# Altium schematic symbol library Schlib.SchLib: 111 symbols (part 1 of 2)
Pins are listed as number, name and electrical type; pins without a type are passive.

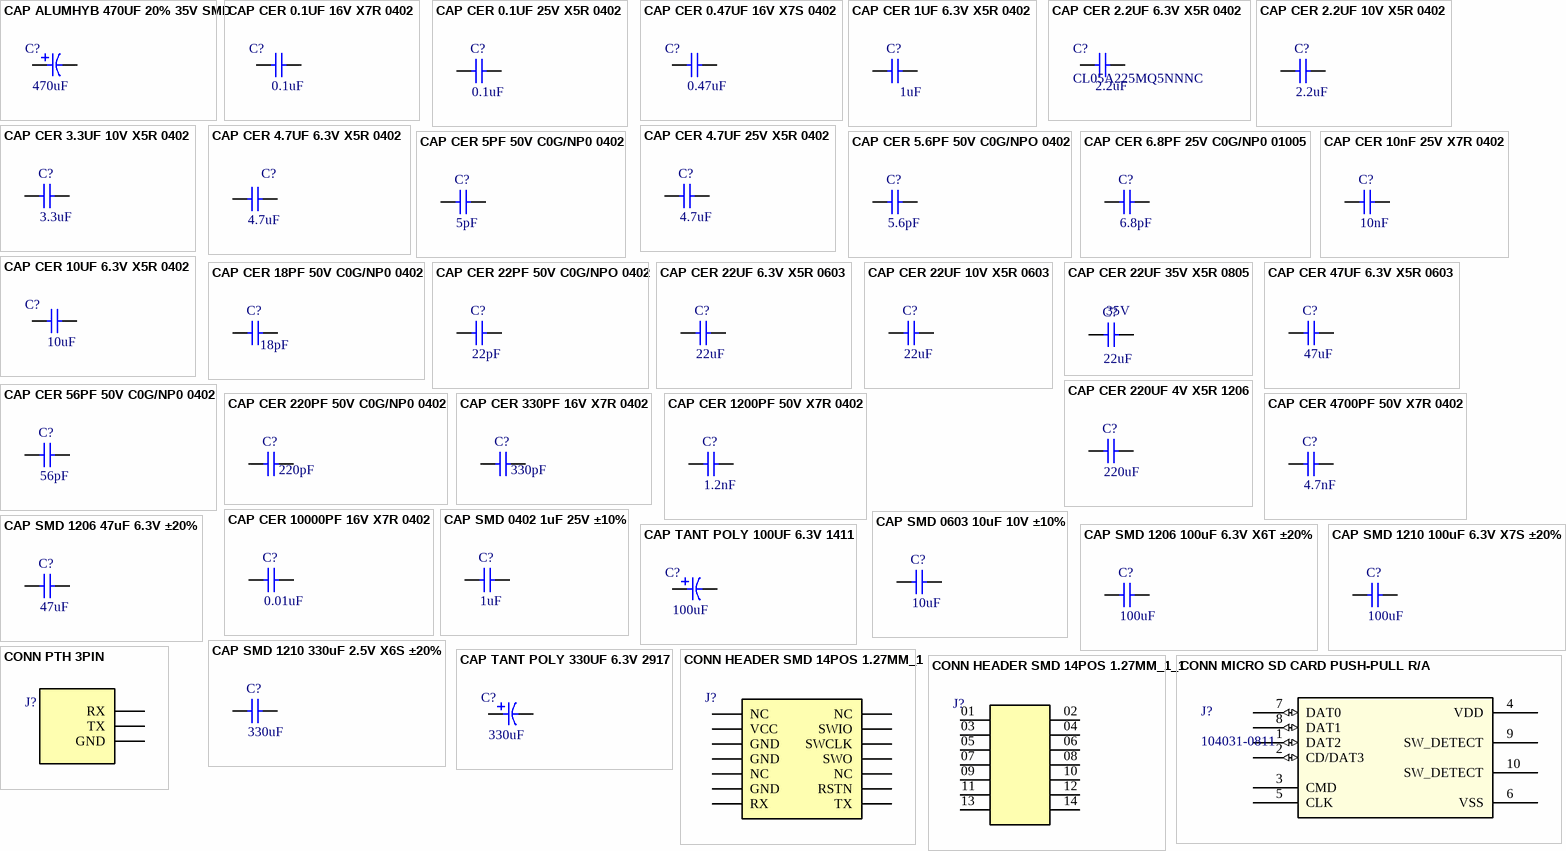
[diagram p0: symbols CAP ALUMHYB 470UF 20% 35V SMD to CONN PTH 3PIN]

## CAP ALUMHYB 470UF 20% 35V SMD
designator C?, comment value 470uF  (hidden comment: EEH-ZS1V471UP)
CAP ALUMHYB 470UF 20% 35V SMD PN: EEH-ZS1V471UP; Mfr_Name: PANASONIC; Tolerance: 20%; Voltage: 35V; PN: EEH-ZS1V471UP
footprint CAP_EEHZS1V471UP
pins: 1, 2

## CAP CER 0.1UF 16V X7R 0402
designator C?, comment CAPACITANCE: 0.1uF  (hidden comment: GRM155R71C104KA88J)
0.1 µF ±10% 16V Ceramic Capacitor X7R 0402 (1005 Metric) / PN: GRM155R71C104KA88J; Mfr_Name: Murata; PN: GRM155R71C104KA88J
footprint 0402-C-R
pins: 1, 2

## CAP CER 0.1UF 25V X5R 0402
designator C?, comment value 0.1uF  (hidden comment: GRM155R61E104KA87D)
0.1 µF ±10% 25V Ceramic Capacitor X5R 0402 (1005 Metric); SIZE: 0402; PN: GRM155R61E104KA87D; VOLTAGE: 25V; TOLERANCE: 10%
footprint 0402-C-R
pins: 1, 2

## CAP CER 0.47UF 16V X7S 0402
designator C?, comment CAPACITANCE: 0.47uF  (hidden comment: CGA2B1X7S1C474K050BC)
CAP CER 0.47UF 16V X7S 0402 PN: CGA2B1X7S1C474K050BC; Mfr_Name: Murata; PN: CGA2B1X7S1C474K050BC
footprint 0402-C-R
pins: 1, 2

## CAP CER 1UF 6.3V X5R 0402
designator C?, comment value 1uF  (hidden comment: JMK105BJ105KV-F)
1 µF ±10% 6.3V Ceramic Capacitor X5R 0402 (1005 Metric); SIZE: 0402; VOLTAGE: 6.3V; TOLERANCE: 10%; PN: JMK105BJ105KV-F
footprint 0402-C-R
pins: 1, 2

## CAP CER 2.2UF 6.3V X5R 0402
designator C?, comment CL05A225MQ5NNNC  CAPACITANCE: 2.2uF
2.2 µF ±20% 6.3V Ceramic Capacitor X5R 0402 (1005 Metric) / PN: CL05A225MQ5NNNC; Mfr_Name: Samsung; PN: CL05A225MQ5NNNC
footprint 0402-C-R
pins: 1, 2

## CAP CER 2.2UF 10V X5R 0402
designator C?, comment value 2.2uF  (hidden comment: 885012105013)
2.2 µF ±20% 10V Ceramic Capacitor X5R 0402 (1005 Metric); SIZE: 0402; VOLTAGE: 10V; TOLERANCE: 20%; PN: 885012105013
footprint 0402-C-R
pins: 1, 2

## CAP CER 3.3UF 10V X5R 0402
designator C?, comment value 3.3uF  (hidden comment: C1005X5R1A335K050BC)
3.3 µF ±10% 10V Ceramic Capacitor X5R 0402 (1005 Metric); SIZE: 0402; PN: C1005X5R1A335K050BC; VOLTAGE: 10V; TOLERANCE: 10%
footprint 0402-C-R
pins: 1, 2

## CAP CER 4.7UF 6.3V X5R 0402
designator C?, comment CAPACITANCE: 4.7uF  (hidden comment: GRM155R60J475ME47D)
4.7 µF ±20% 6.3V Ceramic Capacitor X5R 0402 (1005 Metric) / PN: GRM155R60J475ME47D; Manufacturer_Name: Murata Electronics; Geometry.Height: 0.55mm; Manufacturer_Part_Number: GRM155R60J475ME47D; Mouser Part Number: 81-GRM155R60J475ME7D; Mouser Price/Stock: https://www.mouser.co.uk/ProductDetail/Murata-Electronics/GRM155R60J475ME47D?qs=OCU2Oztfa2a4ocPC5S3YIg%3D%3D; Arrow Part Number: GRM155R60J475ME47D; Arrow Price/Stock: https://www.arrow.com/en/products/grm155r60j475me47d/murata-manufacturing?utm_currency=USD&region=nac; Datasheet Link: https://search.murata.co.jp/Ceramy/image/img/A01X/G101/ENG/GRM155R60J475ME47-17A.pdf; PN: GRM155R60J475ME47D
footprint 0402-C-R
pins: 1, 2

## CAP CER 4.7UF 25V X5R 0402
designator C?, comment value 4.7uF  (hidden comment: GRM155D81C475ME15J)
CAP SMD 0402 MLCC GERAL 4.7uF 25V ±20% 0402 X5s PN: GRM155D81C475ME15J MURATA; SIZE: 0402; VOLTAGE: 25V; TOLERANCE: 20%; PN: GRM155D81C475ME15J
footprint 0402-C-R
pins: 1, 2

## CAP CER 5.6PF 50V C0G/NPO 0402
designator C?, comment value 5.6pF  (hidden comment: CC0402BRNPO9BN5R6)
5.6 pF ±0.1pF 50V Ceramic Capacitor C0G, NP0 0402 (1005 Metric); TOLERANCE: 1%; SIZE: 0402; VOLTAGE: 50V; PN: CC0402BRNPO9BN5R6
footprint 0402-C-R
pins: 1, 2

## CAP CER 5PF 50V C0G/NP0 0402
designator C?, comment value 5pF  (hidden comment: GRM1555C1H5R0BA01D)
5 pF ±0.1pF 50V Ceramic Capacitor C0G, NP0 0402 (1005 Metric); PN: C1005X5R1A335K050BC; TOLERANCE: 2%; SIZE: 0402; VOLTAGE: 50V
footprint 0402-C-R
pins: 1, 2

## CAP CER 6.8PF 25V C0G/NP0 01005
designator C?, comment value 6.8pF  (hidden comment: GRM0225C1E6R8CA03L)
6.8 pF ±0.25pF 25V Ceramic Capacitor C0G, NP0 01005 (0402 Metric); TOLERANCE: 5%; SIZE: 0402; VOLTAGE: 25V; PN: GRM0225C1E6R8CA03L
footprint 0402-C-R
pins: 1, 2

## CAP CER 10nF 25V X7R 0402
designator C?, comment value 10nF  (hidden comment: KGM05AR71E103KH)
10000 pF ±10% 25V Ceramic Capacitor X7R 0402 (1005 Metric); SIZE: 0402; VOLTAGE: 25V; TOLERANCE: 10%; PN: KGM05AR71E103KH
footprint 0402-C-R
pins: 1, 2

## CAP CER 10UF 6.3V X5R 0402
designator C?  CAPACITANCE: 10uF  (hidden comment: *)
10 µF ±20% 6.3V Ceramic Capacitor X5R 0402 (1005 Metric) / PN: GRM155R60J106ME05D; Mfr_Name: Murata; Type: Ceramic Capacitors; PN: GRM155R60J106ME05D
footprint 0402-C-R
pins: 1, 2

## CAP CER 18PF 50V C0G/NP0 0402
designator C?, comment value 18pF  (hidden comment: GRM1555C1H180JA01D)
18 pF ±5% 50V Capacitor de cerâmica C0G, NP0 0402 (métrico 1005)PN:GRM1555C1H180JA01D MURATA; SIZE: 0402; VOLTAGE: 50V; TOLERANCE: 5%; PN: GRM1555C1H180JA01D
footprint 0402-C-R
pins: 1, 2

## CAP CER 22PF 50V C0G/NPO 0402
designator C?, comment value 22pF  (hidden comment: GRM1555C1H220JA01D)
22 pF ±5% 50V Ceramic Capacitor C0G, NP0 0402 (1005 Metric); SIZE: 0402; PN: GRM1555C1H220JA01D; VOLTAGE: 50V; TOLERANCE: 5%
footprint 0402-C-R
pins: 1, 2

## CAP CER 22UF 6.3V X5R 0603
designator C?, comment value 22uF  (hidden comment: GRM188R60J226MEA0D)
22 µF ±20% 6.3V Ceramic Capacitor X5R 0603 (1608 Metric); SIZE: 0603; PN: GRM188R60J226MEA0D; VOLTAGE: 6.3V; TOLERANCE: 20%
footprint 0603-C-R
pins: 1, 2

## CAP CER 22UF 10V X5R 0603
designator C?, comment value 22uF  (hidden comment: GRM188R61A226ME15D)
22 µF ±20% 10V Ceramic Capacitor X5R 0603 (1608 Metric); SIZE: 0603; PN: GRM188R61A226ME15D; VOLTAGE: 10V; TOLERANCE: 20%
footprint 0603-C-R
pins: 1, 2

## CAP CER 22UF 35V X5R 0805
designator C?, comment value 22uF  VOLTAGE: 35V  (hidden comment: C2012X5R1V226M125AC)
22 µF ±20% 35V Ceramic Capacitor X5R 0805 (2012 Metric); SIZE: 0603; PN: C2012X5R1V226M125AC; TOLERANCE: 20%
footprint 0805-C-R
pins: 1, 2

## CAP CER 47UF 6.3V X5R 0603
designator C?, comment value 47uF  (hidden comment: ZRB18AR60J476ME01L)
47 µF ±20% 6.3V Ceramic Capacitor X5R 0603 (1608 Metric); SIZE: 0603; PN: ZRB18AR60J476ME01L; VOLTAGE: 6.3V; TOLERANCE: 20%
footprint 0603-C-R
pins: 1, 2

## CAP CER 56PF 50V C0G/NP0 0402
designator C?, comment value 56pF  (hidden comment: GCM1555C1H560JA16D)
56 pF ±5% 50V Ceramic Capacitor C0G, NP0 0402 (1005 Metric); SIZE: 0402; PN: GCM1555C1H560JA16D; VOLTAGE: 50V; TOLERANCE: 5%
footprint 0402-C-R
pins: 1, 2

## CAP CER 220PF 50V C0G/NP0 0402
designator C?, comment value 220pF  (hidden comment: GRM1555C1H221JA01D)
220 pF ±5% 50V Ceramic Capacitor C0G, NP0 0402 (1005 Metric); SIZE: 0402; VOLTAGE: 50V; TOLERANCE: 5%; PN: GRM1555C1H221JA01D
footprint 0402-C-R
pins: 1, 2

## CAP CER 220UF 4V X5R 1206
designator C?, comment value 220uF  (hidden comment: GRM31CC80G227ME11L)
220 µF ±20% 4V Ceramic Capacitor X5R 1206 (3216 Metric) PN: GRM31CC80G227ME11L; SIZE: 1206; PN: GRM31CC80G227ME11L; TOLERANCE: 20%; VOLTAGE: 4V
footprint 1206-C-R
pins: 1, 2

## CAP CER 330PF 16V X7R 0402
designator C?, comment value 330pF  (hidden comment: C0402C331K4RACTU)
330 pF ±10% 16V Ceramic Capacitor X7R 0402 (1005 Metric); SIZE: 0402; VOLTAGE: 16V; TOLERANCE: 10%; PN: C0402C331K4RACTU
footprint 0402-C-R
pins: 1, 2

## CAP CER 1200PF 50V X7R 0402
designator C?, comment value 1.2nF  (hidden comment: GRM155R71H122KA01D)
1200 pF ±10% 50V Ceramic Capacitor X7R 0402 (1005 Metric); SIZE: 0402; VOLTAGE: 50V; TOLERANCE: 10%; PN: GRM155R71H122KA01D
footprint 0402-C-R
pins: 1, 2

## CAP CER 4700PF 50V X7R 0402
designator C?, comment value 4.7nF  (hidden comment: GRM155R71H472KA01D)
4700 pF ±10% 50V Capacitor de cerâmica X7R 0402 PN: GRM155R71H472KA01D; SIZE: 0402; PN: GRM155R71H472KA01D; VOLTAGE: 50V; TOLERANCE: 10%
footprint 0402-C-R
pins: 1, 2

## CAP CER 10000PF 16V X7R 0402
designator C?, comment value 0.01uF  (hidden comment: GRM155R71C103KA01D)
10000 pF ±10% 16V Ceramic Capacitor X7R 0402 (1005 Metric); SIZE: 0402; VOLTAGE: 16V; TOLERANCE: 10%; PN: GRM155R71C103KA01D
footprint 0402-C-R
pins: 1, 2

## CAP SMD 0402 1uF 25V ±10%
designator C?, comment value 1uF  (hidden comment: GRM155R61E105KA12D)
CAP SMD 0402 MLCC GERAL 1uF 25V ±10% 0402 X5R PN:GRM155R61E105KA12D MURATA; SIZE: 0402; VOLTAGE: 25V; TOLERANCE: 10%; PN: GRM155R61E105KA12D
footprint 0402-C-R
pins: 1, 2

## CAP SMD 0603 10uF 10V ±10%
designator C?  value 10uF
CAP SMD 0603 MLCC GERAL 10uF 10V ±10% X7R PN: GRM188Z71A106KA73D; SIZE: 0603; PN: GRM188Z71A106KA73D; VOLTAGE: 10V; TOLERANCE: 10%
footprint 0603-C-R
pins: 1, 2

## CAP SMD 1206 47uF 6.3V ±20%
designator C?, comment value 47uF  (hidden comment: C3216X7S0J476M160AC)
CAP SMD 1206 MLCC GERAL 47uF 6.3V ±20% X7S PN:C3216X7S0J476M160AC; SIZE: 1206; VOLTAGE: 6.3V; TOLERANCE: 20%; PN: C3216X7S0J476M160AC
footprint 1206-C-R
pins: 1, 2

## CAP SMD 1206 100uF 6.3V X6T ±20%
designator C?, comment value 100uF  (hidden comment: GRM31CD80J107MEA8K)
CAP SMD 1206 MLCC GERAL 100uF 6.3V ±20% X6T PN: GRM31CD80J107MEA8K; SIZE: 1206; VOLTAGE: 6.3V; TOLERANCE: 20%; PN: GRM31CD80J107MEA8K
footprint 1206-C-R
pins: 1, 2

## CAP SMD 1210 100uF 6.3V X7S ±20%
designator C?, comment value 100uF  (hidden comment: GRT32EC70J107ME13L)
CAP SMD 1210 MLCC GERAL 100uF 6.3V ±20% X7S PN: GRT32EC70J107ME13L; SIZE: 1210; VOLTAGE: 6.3V; TOLERANCE: 20%; PN: GRT32EC70J107ME13L
footprint 1210-C-R
pins: 1, 2

## CAP SMD 1210 330uF 2.5V X6S ±20%
designator C?, comment value 330uF  (hidden comment: GRM32EC80E337ME05L)
CAP SMD 1206 MLCC GERAL 47uF 6.3V ±20% X6S PN: GRM32EC80E337ME05L; VOLTAGE: 2.5V; SIZE: 1210; TOLERANCE: 20%; PN: GRM32EC80E337ME05L
footprint 1210-C-R
pins: 1, 2

## CAP TANT POLY 100UF 6.3V 1411
designator C?, comment value 100uF  (hidden comment: T598B107M006ATE045)
CAP TANT POLY 100UF 6.3V 1411 PN: T598B107M006ATE045; Mfr_Name: Kemet; Tolerance: 20%; Voltage: 6.3V; PN: T598B107M006ATE045
footprint TANT_1411_KEMET
pins: 1, 2

## CAP TANT POLY 330UF 6.3V 2917
designator C?, comment value 330uF  (hidden comment: T598D337M006ATE080)
CAP TANT POLY 330UF 6.3V 2917 PN: T598D337M006ATE080; Mfr_Name: Kemet; Tolerance: 20%; PN: T598D337M006ATE080; Voltage: 6.3V
footprint TANT_2917_KEMET
pins: 1, 2

## CONN HEADER SMD 14POS 1.27MM_1
designator J?  (value not drawn)
CONN HEADER SMD 14POS 1.27MM PN: FTSH-107-01-L-DV-K-A; MF: Samtec Inc.; Package: None; Value: *; Price: None; PN: FTSH-107-01-L-DV-K-A; SnapEDA_Link: https://www.snapeda.com/parts/FTSH-107-01-L-DV-K-A/Samtec%20Inc./view-part/2791957/?ref=snap; Availability: Bad
footprint SAMTEC_FTSH-107-01-L-DV-K-A
pins: 01 NC, 02 NC, 03 VCC, 04 SWIO, 05 GND, 06 SWCLK, 07 GND, 08 SWO, 09 NC, 10 NC, 11 GND, 12 RSTN, 13 RX, 14 TX

## CONN HEADER SMD 14POS 1.27MM_1_1
designator J?  (value not drawn)
CONN HEADER SMD 14POS 1.27MM PN: FTSH-107-01-L-DV-K-A; MF: Samtec Inc.; Package: None; Value: *; Price: None; PN: FTSH-107-01-L-DV-K-A; SnapEDA_Link: https://www.snapeda.com/parts/FTSH-107-01-L-DV-K-A/Samtec%20Inc./view-part/2791957/?ref=snap; Availability: Bad
footprint SAMTEC_FTSH-107-01-L-DV-K-A
pins: 01, 02, 03, 04, 05, 06, 07, 08, 09, 10, 11, 12, 13, 14

## CONN MICRO SD CARD PUSH-PULL R/A
designator J?, comment 104031-0811
10 (8 + 2) Position Card Connector Secure Digital - microSD™ Surface Mount, Right Angle Gold / PN: 104031-0811; Mfr_Name: Molex Connector Corporation; RefDes: RefDes; Type: Type; PN: 104031-0811
footprint 104031-0811_MOL
pins: 1 DAT2 (io), 2 CD/DAT3 (io), 3 CMD, 4 VDD (power), 5 CLK, 6 VSS (power), 7 DAT0 (io), 8 DAT1 (io), 9 SW_DETECT, 10 SW_DETECT

## CONN PTH 3PIN
designator J?  (value not drawn)
footprint CONNECTOR BATTERY
pins: 1 GND, 2 TX, 3 RX

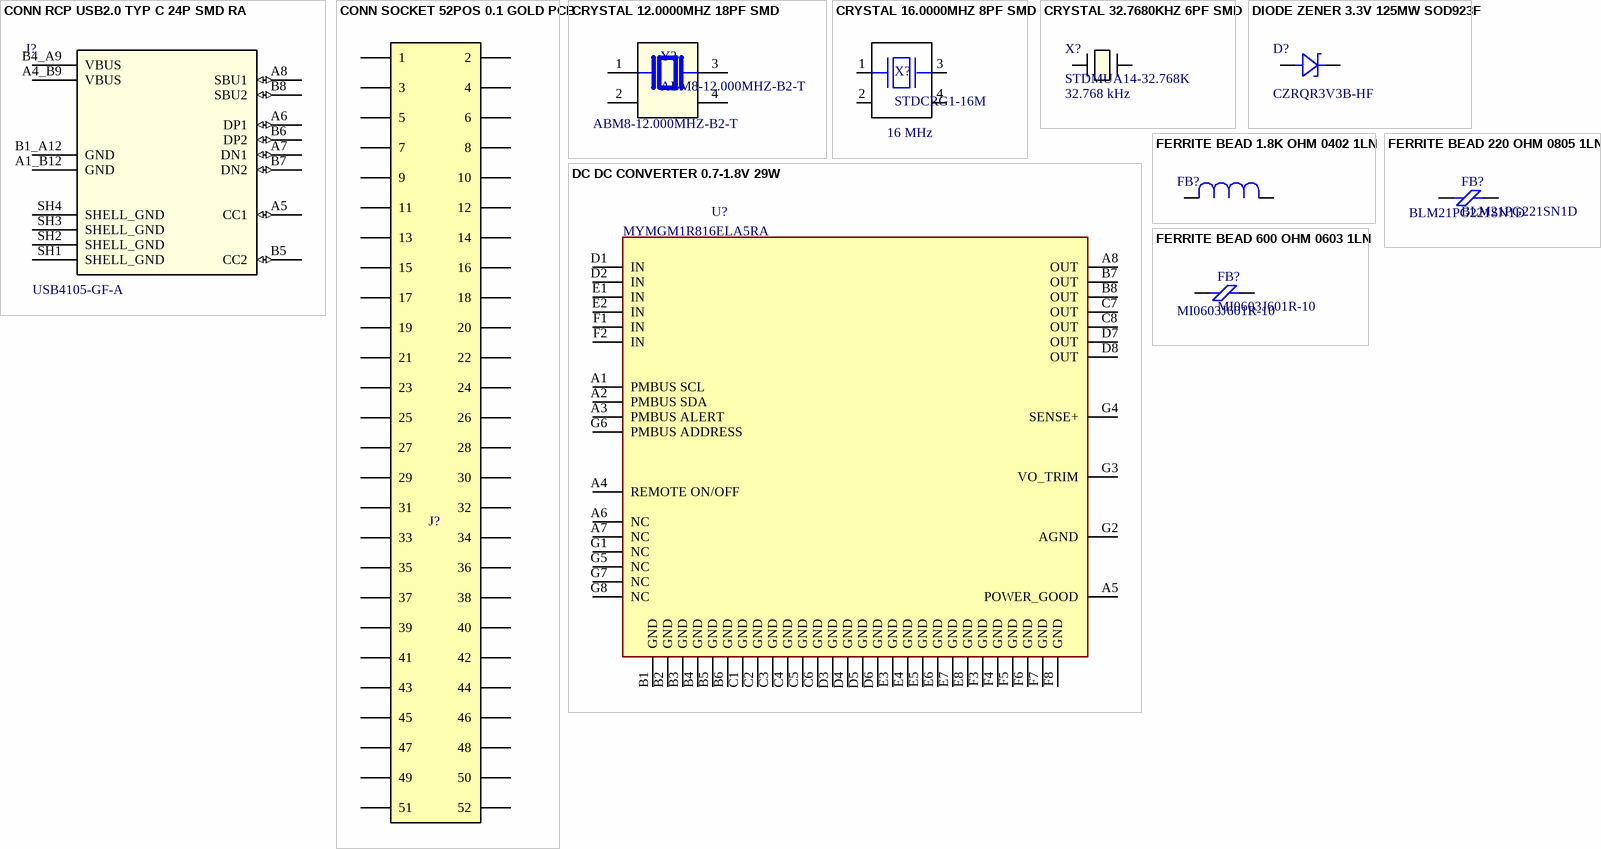
[diagram p1: symbols CONN RCP USB2.0 TYP C 24P SMD RA to FERRITE BEAD 600 OHM 0603 1LN]

## CONN RCP USB2.0 TYP C 24P SMD RA
designator J?  PN: USB4105-GF-A  (hidden comment: *)
CONN RCP USB2.0 TYP C 24P SMD RA PN: USB4105-GF-A; MF: {'manufacturer': u'GCT'}; Package: None; Price: None; Availability: Unavailable; Value: *
footprint GCT_USB4105-GF-A
pins: A1_B12 GND (power), A4_B9 VBUS (power), A5 CC1 (io), A6 DP1 (io), A7 DN1 (io), A8 SBU1 (io), B1_A12 GND (power), B4_A9 VBUS (power), B5 CC2 (io), B6 DP2 (io), B7 DN2 (io), B8 SBU2 (io), SH1 SHELL_GND (power), SH2 SHELL_GND (power), SH3 SHELL_GND (power), SH4 SHELL_GND (power)

## CONN SOCKET 52POS 0.1 GOLD PCB
designator J?, comment ESQ-126-39-G-D  (value not drawn)
CONN SOCKET 52POS 0.1 GOLD PCB PN: ESQ-126-39-G-D; MF: Samtec; Package: None; PN: ESQ-126-39-G-D; Value: *; Availability: Unavailable; Price: None; SnapEDA_Link: https://www.snapeda.com/parts/ESQ-126-39-G-D/Samtec%20Inc./view-part/490181/?ref=snap
footprint SAMTEC_ESQ-126-39-G-D
pins: 01 1, 02 2, 03 3, 04 4, 05 5, 06 6, 07 7, 08 8, 09 9, 10, 11, 12, 13, 14, 15, 16, 17, 18, 19, 20, 21, 22, 23, 24, 25, 26, 27, 28, 29, 30, 31, 32, 33, 34, 35, 36, 37, 38, 39, 40, 41, 42, 43, 44, 45, 46, 47, 48, 49, 50, 51, 52

## CRYSTAL 12.0000MHZ 18PF SMD
designator Y?, comment ABM8-12.000MHZ-B2-T
12 MHz ±20ppm Cristal 18pF 120 Ohms 4-SMD, sem condutores PN: ABM8-12.000MHZ-B2-T; MF: Abracon; SnapEDA_Link: https://www.snapeda.com/parts/ABM8-12.000MHZ-B2-T/Abracon+LLC/view-part/?ref=snap; Price: None; Value: *; MP: ABM8-12.000MHZ-B2-T; Check_prices: https://www.snapeda.com/parts/ABM8-12.000MHZ-B2-T/Abracon+LLC/view-part/?ref=eda; Availability: In Stock; Package: NON-STANDARD-4 Abracon; Purchase-URL: https://pricing.snapeda.com/search/part/ABM8-12.000MHZ-B2-T/?ref=eda; PN: ABM8-12.000MHZ-B2-T
footprint XTAL_ABM8-12.000MHZ-B2-T
pins: 1, 2 GND (power), 3 2, 4 GND (power)

## CRYSTAL 16.0000MHZ 8PF SMD
designator X?, comment STDCRG1-16M  value 16 MHz
16 MHz ±20ppm Crystal 8pF 80 Ohms 4-SMD, No Lead; SnapEDA_Link: https://www.snapeda.com/parts/ECS-160-8-33Q-JES-TR/ECS/view-part/?ref=snap; Package: ECX-33Q-33Q-4 ECS; PN: STDCRG1-16M
footprint XTAL_ECS-160-8-33Q-JES-TR
pins: 1, 2 GND (power), 3 2, 4 GND (power)

## CRYSTAL 32.7680KHZ 6PF SMD
designator X?, comment STDMUA14-32.768K  value 32.768 kHz
32.768 kHz ±20ppm Crystal 6pF 70 kOhms 2-SMD, No Lead; Mfr_Name: NDK; Type: Crystals; PN: STDMUA14-32.768K
footprint XTAL_NX3215SA_NDK-M - duplicate
pins: 1, 2

## DC DC CONVERTER 0.7-1.8V 29W
designator U?, comment MYMGM1R816ELA5RA
Non-Isolated PoL Module DC DC Converter 1 Output 0.7 ~ 1.8V 16A 7.5V - 15V Input; Manufacturer_Name: Murata Electronics; Geometry.Height: 5mm; Mouser Price/Stock: https://www.mouser.co.uk/ProductDetail/Murata-Electronics/MYMGM1R816ELA5RA?qs=yqaQSyyJnNjVzr3CRacFow%3D%3D; Manufacturer_Part_Number: MYMGM1R816ELA5RA; Datasheet Link: https://www.murata.com/products/productdata/8808255881246/MYMGM1R816ELA5RA.pdf?1596425417000; PN: MYMGM1R816ELA5RA
footprint MYMGM1R816ELA5RA
pins: A1 PMBUS SCL, A2 PMBUS SDA, A3 PMBUS ALERT, A4 REMOTE ON/OFF, A5 POWER_GOOD, A6 NC, A7 NC, A8 OUT, B1 GND, B2 GND, B3 GND, B4 GND, B5 GND, B6 GND, B7 OUT, B8 OUT, C1 GND, C2 GND, C3 GND, C4 GND, C5 GND, C6 GND, C7 OUT, C8 OUT, D1 IN, D2 IN, D3 GND, D4 GND, D5 GND, D6 GND, D7 OUT, D8 OUT, E1 IN, E2 IN, E3 GND, E4 GND, E5 GND, E6 GND, E7 GND, E8 GND, F1 IN, F2 IN, F3 GND, F4 GND, F5 GND, F6 GND, F7 GND, F8 GND, G1 NC, G2 AGND, G3 VO_TRIM, G4 SENSE+, G5 NC, G6 PMBUS ADDRESS, G7 NC, G8 NC

## DIODE ZENER 3.3V 125MW SOD923F
designator D?  PN: CZRQR3V3B-HF  (hidden comment: *)
Zener Diode 3.3 V 125 mW ±5% Surface Mount 0402/SOD-923F; Mfr_Name: Comchip; Tensão: 3.3V
footprint CZRQR
pins: 1, 2

## FERRITE BEAD 1.8K OHM 0402 1LN
designator FB?, comment BLM15HD182SN1D  (value not drawn)
FERRITE BEAD 1.8K OHM 0402 1LN PN: BLM15HD182SN1D; Mfr_Name: Murata; PN: BLM15HD182SN1D
footprint 0402-F-R
pins: 1, 2

## FERRITE BEAD 220 OHM 0805 1LN
designator FB?, comment BLM21PG221SN1D
220 Ohms @ 100 MHz 1 Linha de energia Miçanga de ferrita 0805 (métrico 2012) 2A 45mOhm / PN: BLM21PG221SN1D; Package: None; Price: None; Availability: Unavailable; MP: BLM21PG221SN1D; Value: *; PN: BLM21PG221SN1D
footprint 2BEADC2012X105N
pins: 1, 2

## FERRITE BEAD 600 OHM 0603 1LN
designator FB?, comment MI0603J601R-10
600 Ohms @ 100MHz 1 Power Line Ferrite Bead 0603 (1608 Metric) 1A 200mOhm PN: MI0603J601R-10; MF: Laird-Signal Integrity; Value: *; Digi-Key_Part_Number: 240-2371-1-ND; Check_prices: https://www.snapeda.com/parts/MI0603J601R-10/Laird-Signal%20Integrity%20Products/view-part/46417/?ref=eda; SnapEDA_Link: https://www.snapeda.com/parts/MI0603J601R-10/Laird-Signal%20Integrity%20Products/view-part/46417/?ref=snap; Purchase-URL: https://pricing.snapeda.com/search/part/MI0603J601R-10/?ref=eda; MP: MI0603J601R-10; Package: 0603 Laird; PN: MI0603J601R-10
footprint FB_MI0603J601R-10
pins: 1, 2

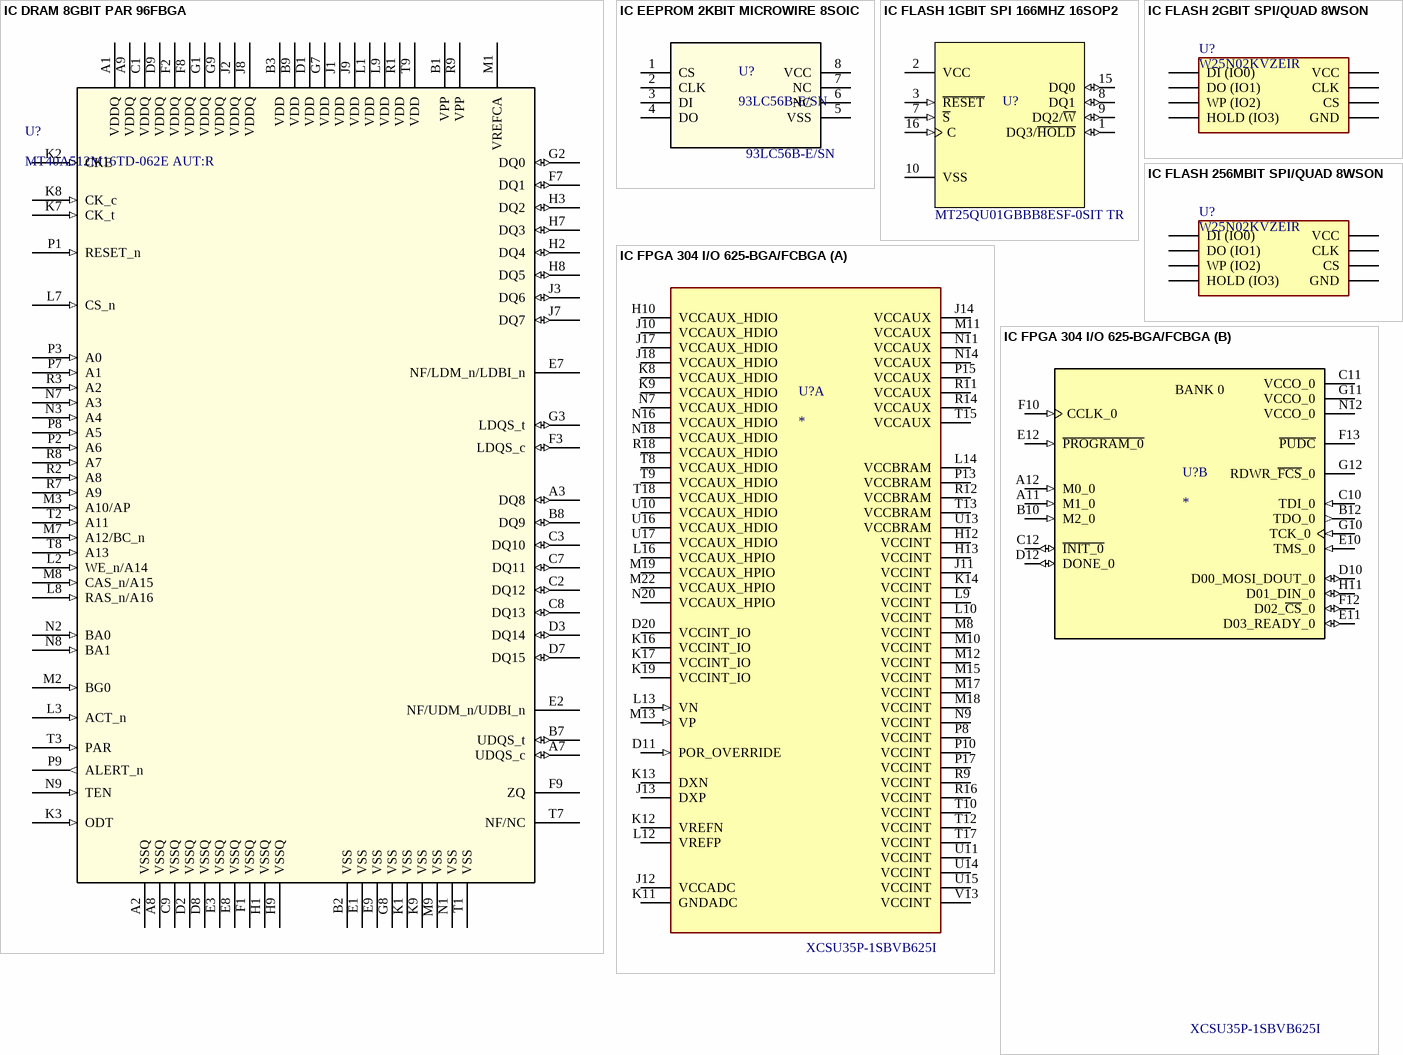
[diagram p2: symbols IC DRAM 8GBIT PAR 96FBGA to IC FPGA 304 I/O 625-BGA/FCBGA]

## IC DRAM 8GBIT PAR 96FBGA
designator U?, comment MT40A512M16TD-062E AUT:R
SDRAM - DDR4 Memory IC 8Gbit Parallel 1.6 GHz 19 ns 96-FBGA (7.5x13); Mfr_Name: Micron; Type: Memory; RefDes: RefDes; PN: MT40A512M16TD-062E AUT:R
footprint FBGA96_TD_MRN
pins: A1 VDDQ (power), A2 VSSQ (power), A3 DQ8 (io), A7 UDQS_c (io), A8 VSSQ (power), A9 VDDQ (power), B1 VPP (power), B2 VSS (power), B3 VDD (power), B7 UDQS_t (io), B8 DQ9 (io), B9 VDD (power), C1 VDDQ (power), C2 DQ12 (io), C3 DQ10 (io), C7 DQ11 (io), C8 DQ13 (io), C9 VSSQ (power), D1 VDD (power), D2 VSSQ (power), D3 DQ14 (io), D7 DQ15 (io), D8 VSSQ (power), D9 VDDQ (power), E1 VSS (power), E2 NF/UDM_n/UDBI_n, E3 VSSQ (power), E7 NF/LDM_n/LDBI_n, E8 VSSQ (power), E9 VSS (power), F1 VSSQ (power), F2 VDDQ (power), F3 LDQS_c (io), F7 DQ1 (io), F8 VDDQ (power), F9 ZQ, G1 VDDQ (power), G2 DQ0 (io), G3 LDQS_t (io), G7 VDD (power), G8 VSS (power), G9 VDDQ (power), H1 VSSQ (power), H2 DQ4 (io), H3 DQ2 (io), H7 DQ3 (io), H8 DQ5 (io), H9 VSSQ (power), J1 VDD (power), J2 VDDQ (power), J3 DQ6 (io), J7 DQ7 (io), J8 VDDQ (power), J9 VDD (power), K1 VSS (power), K2 CKE (in), K3 ODT (in), K7 CK_t (in), K8 CK_c (in), K9 VSS (power), L1 VDD (power), L2 WE_n/A14 (in), L3 ACT_n (in), L7 CS_n (in), L8 RAS_n/A16 (in), L9 VDD (power), M1 VREFCA (power), M2 BG0 (in), M3 A10/AP (in), M7 A12/BC_n (in), M8 CAS_n/A15 (in), M9 VSS (power), N1 VSS (power), N2 BA0 (in), N3 A4 (in), N7 A3 (in), N8 BA1 (in), N9 TEN (in), P1 RESET_n (in), P2 A6 (in), P3 A0 (in), P7 A1 (in), P8 A5 (in), P9 ALERT_n (out), R1 VDD (power), R2 A8 (in), R3 A2 (in), R7 A9 (in), R8 A7 (in), R9 VPP (power), T1 VSS (power), T2 A11 (in), T3 PAR (in), T7 NF/NC, T8 A13 (in), T9 VDD (power)

## IC EEPROM 2KBIT MICROWIRE 8SOIC
designator U?, comment 93LC56B-E/SN
EEPROM CI de memória 2Kbit Microwire 2 MHz 8-SOIC. PN: 93LC56B-E/SN; Mfr_Name: Microchip; RefDes: RefDes; Type: Type; PN: 93LC56B-E/SN
footprint 93LC56B-E/SN
pins: 1 CS, 2 CLK, 3 DI, 4 DO, 5 VSS, 6 NC, 7 NC, 8 VCC

## IC FLASH 1GBIT SPI 166MHZ 16SOP2
designator U?  PN: MT25QU01GBBB8ESF-0SIT TR  (hidden comment: *)
FLASH - NOR CI de memória 1Gbit SPI - E/S quádrupla 166 MHz 16-SOP2; MF: Micron Technology Inc.; SnapEDA_Link: https://www.snapeda.com/parts/MT25QU01GBBB8ESF-0SIT%20TR/Micron/view-part/?ref=snap; Availability: In Stock; Price: None; Purchase-URL: https://pricing.snapeda.com/search/part/MT25QU01GBBB8ESF-0SIT TR/?ref=eda; Package: SO-16 Micron Technology; Check_prices: https://www.snapeda.com/parts/MT25QU01GBBB8ESF-0SIT%20TR/Micron/view-part/?ref=eda; Value: *
footprint SOIC127P1032X265-16N
pins: 1 DQ3/~{HOLD} (io), 2 VCC (power), 3 ~{RESET} (in), 7 ~{S} (in), 8 DQ1 (io), 9 DQ2/~{W} (io), 10 VSS (power), 15 DQ0 (io), 16 C (in)

## IC FLASH 2GBIT SPI/QUAD 8WSON
designator U?, comment W25N02KVZEIR
FLASH - NAND (SLC) Memory IC 2Gbit SPI - Quad I/O 104 MHz 7 ns 8-WSON (8x6) / PN: W25N02KVZEIR; Manufacturer_Name: Winbond; Geometry.Height: 0.8mm; Mouser Part Number: 454-W25N02KVZEIR; Mouser Price/Stock: https://www.mouser.co.uk/ProductDetail/Winbond/W25N02KVZEIR?qs=YwPsRIUVAOeLKi4%2F%2FEoBOQ%3D%3D; Manufacturer_Part_Number: W25N02KVZEIR; Datasheet Link: https://www.winbond.com/resource-files/W25N02KVxxIRU_Datasheet_20210625_G.pdf; PN: W25N02KVZEIR
footprint SON127P800X600X80-9N
pins: 1 CS, 2 DO (IO1), 3 WP (IO2), 4, 9 GND, 5 DI (IO0), 6 CLK, 7 HOLD (IO3), 8 VCC

## IC FLASH 256MBIT SPI/QUAD 8WSON
designator U?, comment W25N02KVZEIR
FLASH - NAND (SLC) Memory IC 2Gbit SPI - Quad I/O 104 MHz 7 ns 8-WSON (8x6) / PN: W25N02KVZEIR; Manufacturer_Name: Winbond; Geometry.Height: 0.8mm; Mouser Part Number: 454-W25N02KVZEIR; Mouser Price/Stock: https://www.mouser.co.uk/ProductDetail/Winbond/W25N02KVZEIR?qs=YwPsRIUVAOeLKi4%2F%2FEoBOQ%3D%3D; Manufacturer_Part_Number: W25N02KVZEIR; Datasheet Link: https://www.winbond.com/resource-files/W25N02KVxxIRU_Datasheet_20210625_G.pdf; PN: W25N02KVZEIR
footprint SON127P800X600X80-9N
pins: 1 CS, 2 DO (IO1), 3 WP (IO2), 4, 9 GND, 5 DI (IO0), 6 CLK, 7 HOLD (IO3), 8 VCC

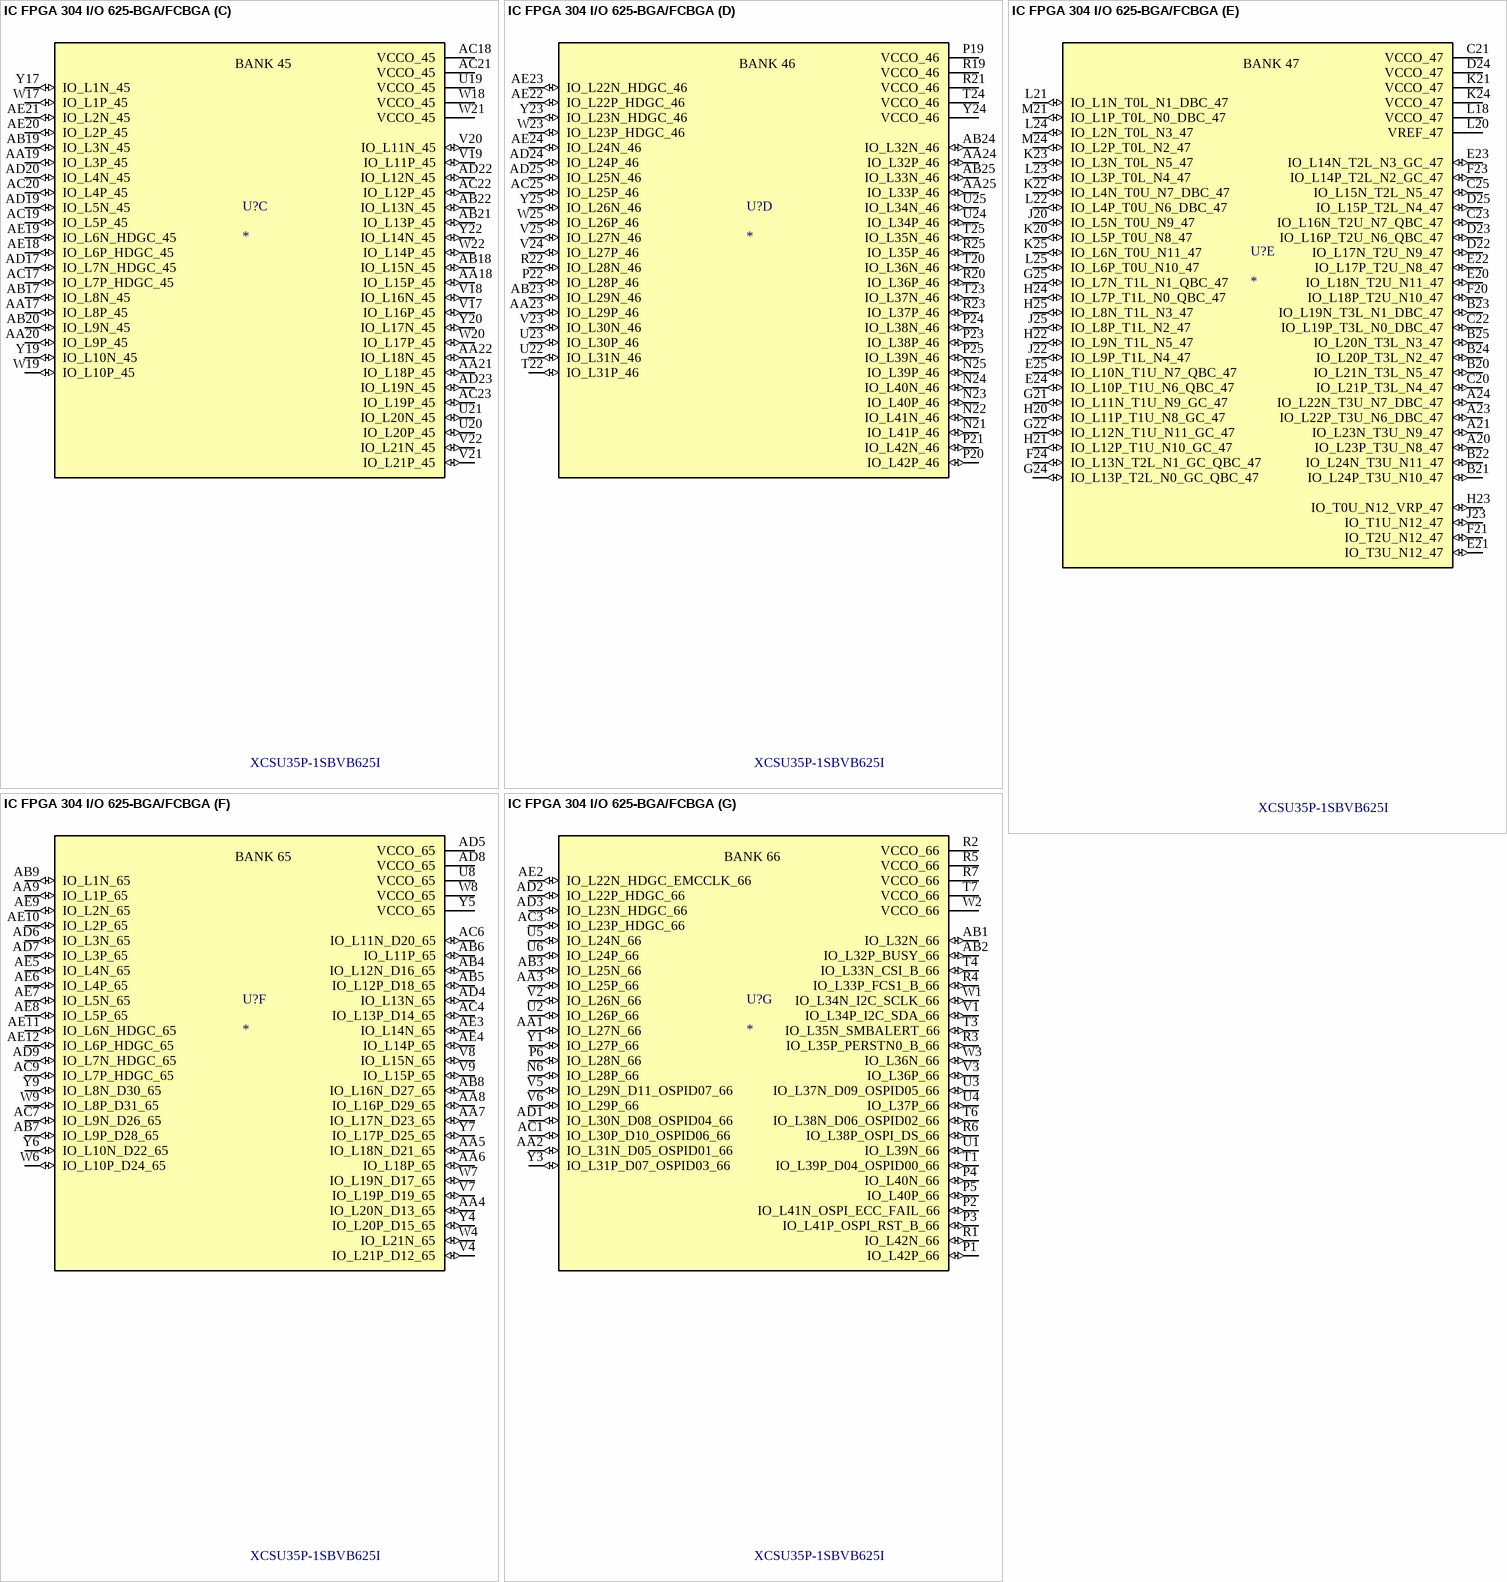
[diagram p3: symbol IC FPGA 304 I/O 625-BGA/FCBGA]

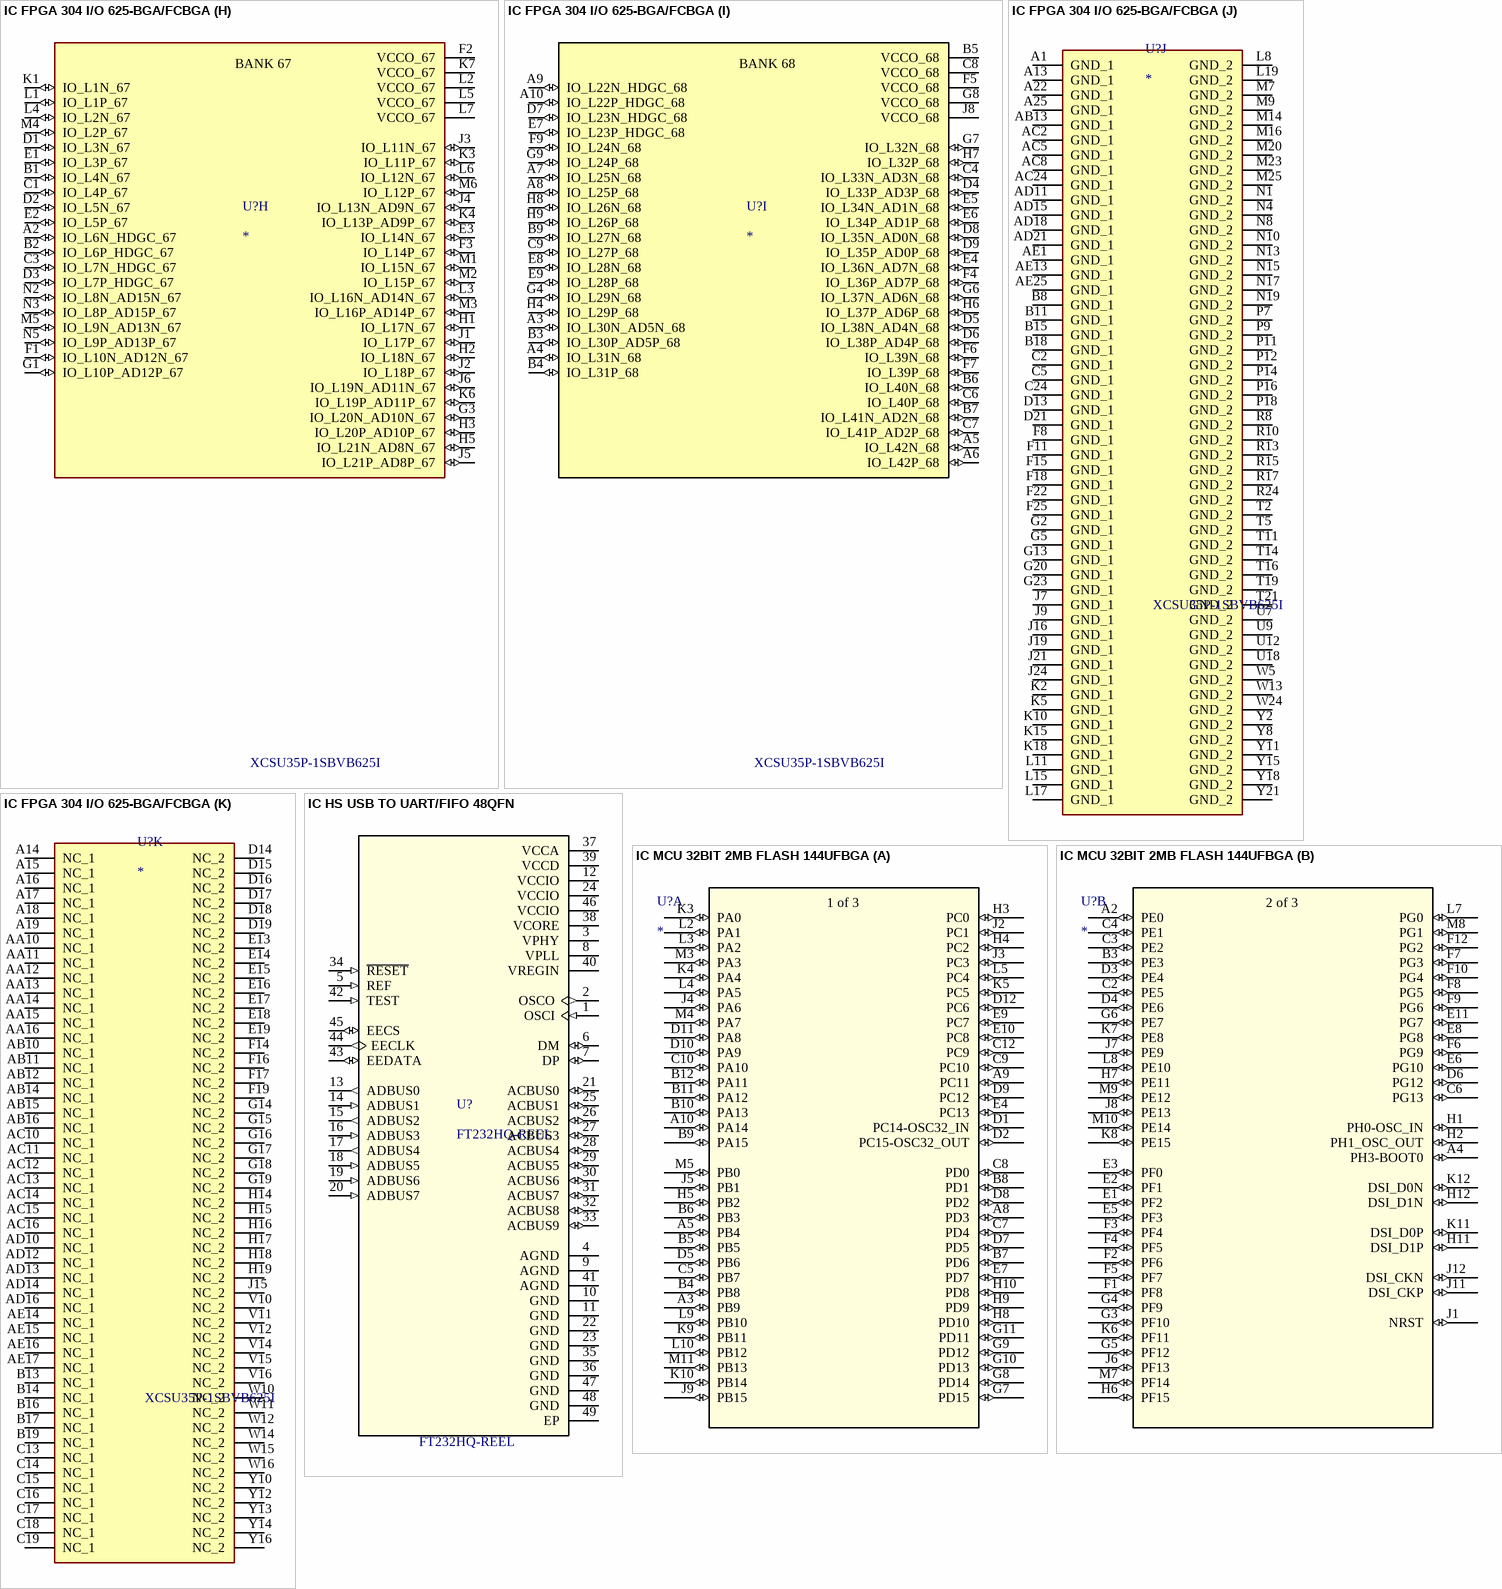
[diagram p4: symbols IC FPGA 304 I/O 625-BGA/FCBGA to IC MCU 32BIT 2MB FLASH 144UFBGA]

## IC FPGA 304 I/O 625-BGA/FCBGA
designator U?  PN: XCSU35P-1SBVB625I
IC FPGA 304 I/O 625-BGA/FCBGA PN: XCSU35P-1SBVB625I; MF: AMD; Package: None; Price: None; Value: *; SnapEDA_Link: https://www.snapeda.com/parts/XCSU10P-2SBVB625I/AMD/view-part/?ref=snap; Availability: Unavailable; Check_prices: https://www.snapeda.com/parts/XCSU10P-2SBVB625I/AMD/view-part/?ref=eda
footprint BGA625C80P25X25_2100X2100X192
part A pins: D11 POR_OVERRIDE (in), D20 VCCINT_IO (power), H10 VCCAUX_HDIO (power), H12 VCCINT (power), H13 VCCINT (power), J10 VCCAUX_HDIO (power), J11 VCCINT (power), J12 VCCADC (power), J13 DXP, J14 VCCAUX (power), J17 VCCAUX_HDIO (power), J18 VCCAUX_HDIO (power), K8 VCCAUX_HDIO (power), K9 VCCAUX_HDIO (power), K11 GNDADC (power), K12 VREFN, K13 DXN, K14 VCCINT (power), K16 VCCINT_IO (power), K17 VCCINT_IO (power), K19 VCCINT_IO (power), L9 VCCINT (power), L10 VCCINT (power), L12 VREFP, L13 VN (in), L14 VCCBRAM (power), L16 VCCAUX_HPIO (power), M8 VCCINT (power), M10 VCCINT (power), M11 VCCAUX (power), M12 VCCINT (power), M13 VP (in), M15 VCCINT (power), M17 VCCINT (power), M18 VCCINT (power), M19 VCCAUX_HPIO (power), M22 VCCAUX_HPIO (power), N7 VCCAUX_HDIO (power), N9 VCCINT (power), N11 VCCAUX (power), N14 VCCAUX (power), N16 VCCAUX_HDIO (power), N18 VCCAUX_HDIO (power), N20 VCCAUX_HPIO (power), P8 VCCINT (power), P10 VCCINT (power), P13 VCCBRAM (power), P15 VCCAUX (power), P17 VCCINT (power), R9 VCCINT (power), R11 VCCAUX (power), R12 VCCBRAM (power), R14 VCCAUX (power), R16 VCCINT (power), R18 VCCAUX_HDIO (power), T8 VCCAUX_HDIO (power), T9 VCCAUX_HDIO (power), T10 VCCINT (power), T12 VCCINT (power), T13 VCCBRAM (power), T15 VCCAUX (power), T17 VCCINT (power), T18 VCCAUX_HDIO (power), U10 VCCAUX_HDIO (power), U11 VCCINT (power), U13 VCCBRAM (power), U14 VCCINT (power), U15 VCCINT (power), U16 VCCAUX_HDIO (power), U17 VCCAUX_HDIO (power), V13 VCCINT (power)
part B pins: A11 M1_0 (in), A12 M0_0 (in), B10 M2_0 (in), B12 TDO_0 (out), C10 TDI_0 (in), C11 VCCO_0 (power), C12 ~{INIT_0} (io), D10 D00_MOSI_DOUT_0 (io), D12 DONE_0 (io), E10 TMS_0 (in), E11 D03_READY_0 (io), E12 ~{PROGRAM_0} (in), F10 CCLK_0 (in), F12 D02_~{CS}_0 (io), F13 ~{PUDC}, G10 TCK_0 (in), G11 VCCO_0 (power), G12 RDWR_~{FCS}_0, H11 D01_DIN_0 (io), N12 VCCO_0 (power)
part C pins: AA17 IO_L8P_45 (io), AA18 IO_L15P_45 (io), AA19 IO_L3P_45 (io), AA20 IO_L9P_45 (io), AA21 IO_L18P_45 (io), AA22 IO_L18N_45 (io), AB17 IO_L8N_45 (io), AB18 IO_L15N_45 (io), AB19 IO_L3N_45 (io), AB20 IO_L9N_45 (io), AB21 IO_L13P_45 (io), AB22 IO_L13N_45 (io), AC17 IO_L7P_HDGC_45 (io), AC18 VCCO_45 (power), AC19 IO_L5P_45 (io), AC20 IO_L4P_45 (io), AC21 VCCO_45 (power), AC22 IO_L12P_45 (io), AC23 IO_L19P_45 (io), AD17 IO_L7N_HDGC_45 (io), AD19 IO_L5N_45 (io), AD20 IO_L4N_45 (io), AD22 IO_L12N_45 (io), AD23 IO_L19N_45 (io), AE18 IO_L6P_HDGC_45 (io), AE19 IO_L6N_HDGC_45 (io), AE20 IO_L2P_45 (io), AE21 IO_L2N_45 (io), U19 VCCO_45 (power), U20 IO_L20P_45 (io), U21 IO_L20N_45 (io), V17 IO_L16P_45 (io), V18 IO_L16N_45 (io), V19 IO_L11P_45 (io), V20 IO_L11N_45 (io), V21 IO_L21P_45 (io), V22 IO_L21N_45 (io), W17 IO_L1P_45 (io), W18 VCCO_45 (power), W19 IO_L10P_45 (io), W20 IO_L17P_45 (io), W21 VCCO_45 (power), W22 IO_L14P_45 (io), Y17 IO_L1N_45 (io), Y19 IO_L10N_45 (io), Y20 IO_L17N_45 (io), Y22 IO_L14N_45 (io)
part D pins: AA23 IO_L29P_46 (io), AA24 IO_L32P_46 (io), AA25 IO_L33P_46 (io), AB23 IO_L29N_46 (io), AB24 IO_L32N_46 (io), AB25 IO_L33N_46 (io), AC25 IO_L25P_46 (io), AD24 IO_L24P_46 (io), AD25 IO_L25N_46 (io), AE22 IO_L22P_HDGC_46 (io), AE23 IO_L22N_HDGC_46 (io), AE24 IO_L24N_46 (io), N21 IO_L41P_46 (io), N22 IO_L41N_46 (io), N23 IO_L40P_46 (io), N24 IO_L40N_46 (io), N25 IO_L39P_46 (io), P19 VCCO_46 (power), P20 IO_L42P_46 (io), P21 IO_L42N_46 (io), P22 IO_L28P_46 (io), P23 IO_L38P_46 (io), P24 IO_L38N_46 (io), P25 IO_L39N_46 (io), R19 VCCO_46 (power), R20 IO_L36P_46 (io), R21 VCCO_46 (power), R22 IO_L28N_46 (io), R23 IO_L37P_46 (io), R25 IO_L35P_46 (io), T20 IO_L36N_46 (io), T22 IO_L31P_46 (io), T23 IO_L37N_46 (io), T24 VCCO_46 (power), T25 IO_L35N_46 (io), U22 IO_L31N_46 (io), U23 IO_L30P_46 (io), U24 IO_L34P_46 (io), U25 IO_L34N_46 (io), V23 IO_L30N_46 (io), V24 IO_L27P_46 (io), V25 IO_L27N_46 (io), W23 IO_L23P_HDGC_46 (io), W25 IO_L26P_46 (io), Y23 IO_L23N_HDGC_46 (io), Y24 VCCO_46 (power), Y25 IO_L26N_46 (io)
part E pins: A20 IO_L23P_T3U_N8_47 (io), A21 IO_L23N_T3U_N9_47 (io), A23 IO_L22P_T3U_N6_DBC_47 (io), A24 IO_L22N_T3U_N7_DBC_47 (io), B20 IO_L21N_T3L_N5_47 (io), B21 IO_L24P_T3U_N10_47 (io), B22 IO_L24N_T3U_N11_47 (io), B23 IO_L19N_T3L_N1_DBC_47 (io), B24 IO_L20P_T3L_N2_47 (io), B25 IO_L20N_T3L_N3_47 (io), C20 IO_L21P_T3L_N4_47 (io), C21 VCCO_47 (power), C22 IO_L19P_T3L_N0_DBC_47 (io), C23 IO_L16N_T2U_N7_QBC_47 (io), C25 IO_L15N_T2L_N5_47 (io), D22 IO_L17N_T2U_N9_47 (io), D23 IO_L16P_T2U_N6_QBC_47 (io), D24 VCCO_47 (power), D25 IO_L15P_T2L_N4_47 (io), E20 IO_L18N_T2U_N11_47 (io), E21 IO_T3U_N12_47 (io), E22 IO_L17P_T2U_N8_47 (io), E23 IO_L14N_T2L_N3_GC_47 (io), E24 IO_L10P_T1U_N6_QBC_47 (io), E25 IO_L10N_T1U_N7_QBC_47 (io), F20 IO_L18P_T2U_N10_47 (io), F21 IO_T2U_N12_47 (io), F23 IO_L14P_T2L_N2_GC_47 (io), F24 IO_L13N_T2L_N1_GC_QBC_47 (io), G21 IO_L11N_T1U_N9_GC_47 (io), G22 IO_L12N_T1U_N11_GC_47 (io), G24 IO_L13P_T2L_N0_GC_QBC_47 (io), G25 IO_L7N_T1L_N1_QBC_47 (io), H20 IO_L11P_T1U_N8_GC_47 (io), H21 IO_L12P_T1U_N10_GC_47 (io), H22 IO_L9N_T1L_N5_47 (io), H23 IO_T0U_N12_VRP_47 (io), H24 IO_L7P_T1L_N0_QBC_47 (io), H25 IO_L8N_T1L_N3_47 (io), J20 IO_L5N_T0U_N9_47 (io), J22 IO_L9P_T1L_N4_47 (io), J23 IO_T1U_N12_47 (io), J25 IO_L8P_T1L_N2_47 (io), K20 IO_L5P_T0U_N8_47 (io), K21 VCCO_47 (power), K22 IO_L4N_T0U_N7_DBC_47 (io), K23 IO_L3N_T0L_N5_47 (io), K24 VCCO_47 (power), K25 IO_L6N_T0U_N11_47 (io), L18 VCCO_47 (power), L20 VREF_47 (power), L21 IO_L1N_T0L_N1_DBC_47 (io), L22 IO_L4P_T0U_N6_DBC_47 (io), L23 IO_L3P_T0L_N4_47 (io), L24 IO_L2N_T0L_N3_47 (io), L25 IO_L6P_T0U_N10_47 (io), M21 IO_L1P_T0L_N0_DBC_47 (io), M24 IO_L2P_T0L_N2_47 (io)
part F pins: AA4 IO_L20N_D13_65 (io), AA5 IO_L18N_D21_65 (io), AA6 IO_L18P_65 (io), AA7 IO_L17N_D23_65 (io), AA8 IO_L16P_D29_65 (io), AA9 IO_L1P_65 (io), AB4 IO_L12N_D16_65 (io), AB5 IO_L12P_D18_65 (io), AB6 IO_L11P_65 (io), AB7 IO_L9P_D28_65 (io), AB8 IO_L16N_D27_65 (io), AB9 IO_L1N_65 (io), AC4 IO_L13P_D14_65 (io), AC6 IO_L11N_D20_65 (io), AC7 IO_L9N_D26_65 (io), AC9 IO_L7P_HDGC_65 (io), AD4 IO_L13N_65 (io), AD5 VCCO_65 (power), AD6 IO_L3N_65 (io), AD7 IO_L3P_65 (io), AD8 VCCO_65 (power), AD9 IO_L7N_HDGC_65 (io), AE3 IO_L14N_65 (io), AE4 IO_L14P_65 (io), AE5 IO_L4N_65 (io), AE6 IO_L4P_65 (io), AE7 IO_L5N_65 (io), AE8 IO_L5P_65 (io), AE9 IO_L2N_65 (io), AE10 IO_L2P_65 (io), AE11 IO_L6N_HDGC_65 (io), AE12 IO_L6P_HDGC_65 (io), U8 VCCO_65 (power), V4 IO_L21P_D12_65 (io), V7 IO_L19P_D19_65 (io), V8 IO_L15N_65 (io), V9 IO_L15P_65 (io), W4 IO_L21N_65 (io), W6 IO_L10P_D24_65 (io), W7 IO_L19N_D17_65 (io), W8 VCCO_65 (power), W9 IO_L8P_D31_65 (io), Y4 IO_L20P_D15_65 (io), Y5 VCCO_65 (power), Y6 IO_L10N_D22_65 (io), Y7 IO_L17P_D25_65 (io), Y9 IO_L8N_D30_65 (io)
part G pins: AA1 IO_L27N_66 (io), AA2 IO_L31N_D05_OSPID01_66 (io), AA3 IO_L25P_66 (io), AB1 IO_L32N_66 (io), AB2 IO_L32P_BUSY_66 (io), AB3 IO_L25N_66 (io), AC1 IO_L30P_D10_OSPID06_66 (io), AC3 IO_L23P_HDGC_66 (io), AD1 IO_L30N_D08_OSPID04_66 (io), AD2 IO_L22P_HDGC_66 (io), AD3 IO_L23N_HDGC_66 (io), AE2 IO_L22N_HDGC_EMCCLK_66 (io), N6 IO_L28P_66 (io), P1 IO_L42P_66 (io), P2 IO_L41N_OSPI_ECC_FAIL_66 (io), P3 IO_L41P_OSPI_RST_B_66 (io), P4 IO_L40N_66 (io), P5 IO_L40P_66 (io), P6 IO_L28N_66 (io), R1 IO_L42N_66 (io), R2 VCCO_66 (power), R3 IO_L35P_PERSTN0_B_66 (io), R4 IO_L33P_FCS1_B_66 (io), R5 VCCO_66 (power), R6 IO_L38P_OSPI_DS_66 (io), R7 VCCO_66 (power), T1 IO_L39P_D04_OSPID00_66 (io), T3 IO_L35N_SMBALERT_66 (io), T4 IO_L33N_CSI_B_66 (io), T6 IO_L38N_D06_OSPID02_66 (io), T7 VCCO_66 (power), U1 IO_L39N_66 (io), U2 IO_L26P_66 (io), U3 IO_L37N_D09_OSPID05_66 (io), U4 IO_L37P_66 (io), U5 IO_L24N_66 (io), U6 IO_L24P_66 (io), V1 IO_L34P_I2C_SDA_66 (io), V2 IO_L26N_66 (io), V3 IO_L36P_66 (io), V5 IO_L29N_D11_OSPID07_66 (io), V6 IO_L29P_66 (io), W1 IO_L34N_I2C_SCLK_66 (io), W2 VCCO_66 (power), W3 IO_L36N_66 (io), Y1 IO_L27P_66 (io), Y3 IO_L31P_D07_OSPID03_66 (io)
part H pins: A2 IO_L6N_HDGC_67 (io), B1 IO_L4N_67 (io), B2 IO_L6P_HDGC_67 (io), C1 IO_L4P_67 (io), C3 IO_L7N_HDGC_67 (io), D1 IO_L3N_67 (io), D2 IO_L5N_67 (io), D3 IO_L7P_HDGC_67 (io), E1 IO_L3P_67 (io), E2 IO_L5P_67 (io), E3 IO_L14N_67 (io), F1 IO_L10N_AD12N_67 (io), F2 VCCO_67 (power), F3 IO_L14P_67 (io), G1 IO_L10P_AD12P_67 (io), G3 IO_L20N_AD10N_67 (io), H1 IO_L17N_67 (io), H2 IO_L18N_67 (io), H3 IO_L20P_AD10P_67 (io), H5 IO_L21N_AD8N_67 (io), J1 IO_L17P_67 (io), J2 IO_L18P_67 (io), J3 IO_L11N_67 (io), J4 IO_L13N_AD9N_67 (io), J5 IO_L21P_AD8P_67 (io), J6 IO_L19N_AD11N_67 (io), K1 IO_L1N_67 (io), K3 IO_L11P_67 (io), K4 IO_L13P_AD9P_67 (io), K6 IO_L19P_AD11P_67 (io), K7 VCCO_67 (power), L1 IO_L1P_67 (io), L2 VCCO_67 (power), L3 IO_L16N_AD14N_67 (io), L4 IO_L2N_67 (io), L5 VCCO_67 (power), L6 IO_L12N_67 (io), L7 VCCO_67 (power), M1 IO_L15N_67 (io), M2 IO_L15P_67 (io), M3 IO_L16P_AD14P_67 (io), M4 IO_L2P_67 (io), M5 IO_L9N_AD13N_67 (io), M6 IO_L12P_67 (io), N2 IO_L8N_AD15N_67 (io), N3 IO_L8P_AD15P_67 (io), N5 IO_L9P_AD13P_67 (io)
part I pins: A3 IO_L30N_AD5N_68 (io), A4 IO_L31N_68 (io), A5 IO_L42N_68 (io), A6 IO_L42P_68 (io), A7 IO_L25N_68 (io), A8 IO_L25P_68 (io), A9 IO_L22N_HDGC_68 (io), A10 IO_L22P_HDGC_68 (io), B3 IO_L30P_AD5P_68 (io), B4 IO_L31P_68 (io), B5 VCCO_68 (power), B6 IO_L40N_68 (io), B7 IO_L41N_AD2N_68 (io), B9 IO_L27N_68 (io), C4 IO_L33N_AD3N_68 (io), C6 IO_L40P_68 (io), C7 IO_L41P_AD2P_68 (io), C8 VCCO_68 (power), C9 IO_L27P_68 (io), D4 IO_L33P_AD3P_68 (io), D5 IO_L38N_AD4N_68 (io), D6 IO_L38P_AD4P_68 (io), D7 IO_L23N_HDGC_68 (io), D8 IO_L35N_AD0N_68 (io), D9 IO_L35P_AD0P_68 (io), E4 IO_L36N_AD7N_68 (io), E5 IO_L34N_AD1N_68 (io), E6 IO_L34P_AD1P_68 (io), E7 IO_L23P_HDGC_68 (io), E8 IO_L28N_68 (io), E9 IO_L28P_68 (io), F4 IO_L36P_AD7P_68 (io), F5 VCCO_68 (power), F6 IO_L39N_68 (io), F7 IO_L39P_68 (io), F9 IO_L24N_68 (io), G4 IO_L29N_68 (io), G6 IO_L37N_AD6N_68 (io), G7 IO_L32N_68 (io), G8 VCCO_68 (power), G9 IO_L24P_68 (io), H4 IO_L29P_68 (io), H6 IO_L37P_AD6P_68 (io), H7 IO_L32P_68 (io), H8 IO_L26N_68 (io), H9 IO_L26P_68 (io), J8 VCCO_68 (power)
part J pins: A1 GND_1 (power), A13 GND_1 (power), A22 GND_1 (power), A25 GND_1 (power), AB13 GND_1 (power), AC2 GND_1 (power), AC5 GND_1 (power), AC8 GND_1 (power), AC24 GND_1 (power), AD11 GND_1 (power), AD15 GND_1 (power), AD18 GND_1 (power), AD21 GND_1 (power), AE1 GND_1 (power), AE13 GND_1 (power), AE25 GND_1 (power), B8 GND_1 (power), B11 GND_1 (power), B15 GND_1 (power), B18 GND_1 (power), C2 GND_1 (power), C5 GND_1 (power), C24 GND_1 (power), D13 GND_1 (power), D21 GND_1 (power), F8 GND_1 (power), F11 GND_1 (power), F15 GND_1 (power), F18 GND_1 (power), F22 GND_1 (power), F25 GND_1 (power), G2 GND_1 (power), G5 GND_1 (power), G13 GND_1 (power), G20 GND_1 (power), G23 GND_1 (power), J7 GND_1 (power), J9 GND_1 (power), J16 GND_1 (power), J19 GND_1 (power), J21 GND_1 (power), J24 GND_1 (power), K2 GND_1 (power), K5 GND_1 (power), K10 GND_1 (power), K15 GND_1 (power), K18 GND_1 (power), L8 GND_2 (power), L11 GND_1 (power), L15 GND_1 (power), L17 GND_1 (power), L19 GND_2 (power), M7 GND_2 (power), M9 GND_2 (power), M14 GND_2 (power), M16 GND_2 (power), M20 GND_2 (power), M23 GND_2 (power), M25 GND_2 (power), N1 GND_2 (power), N4 GND_2 (power), N8 GND_2 (power), N10 GND_2 (power), N13 GND_2 (power), N15 GND_2 (power), N17 GND_2 (power), N19 GND_2 (power), P7 GND_2 (power), P9 GND_2 (power), P11 GND_2 (power), P12 GND_2 (power), P14 GND_2 (power), P16 GND_2 (power), P18 GND_2 (power), R8 GND_2 (power), R10 GND_2 (power), R13 GND_2 (power), R15 GND_2 (power), R17 GND_2 (power), R24 GND_2 (power), T2 GND_2 (power), T5 GND_2 (power), T11 GND_2 (power), T14 GND_2 (power), T16 GND_2 (power), T19 GND_2 (power), T21 GND_2 (power), U7 GND_2 (power), U9 GND_2 (power), U12 GND_2 (power), U18 GND_2 (power), W5 GND_2 (power), W13 GND_2 (power), W24 GND_2 (power), Y2 GND_2 (power), Y8 GND_2 (power), Y11 GND_2 (power), Y15 GND_2 (power), Y18 GND_2 (power), Y21 GND_2 (power)
part K pins: A14 NC_1, A15 NC_1, A16 NC_1, A17 NC_1, A18 NC_1, A19 NC_1, AA10 NC_1, AA11 NC_1, AA12 NC_1, AA13 NC_1, AA14 NC_1, AA15 NC_1, AA16 NC_1, AB10 NC_1, AB11 NC_1, AB12 NC_1, AB14 NC_1, AB15 NC_1, AB16 NC_1, AC10 NC_1, AC11 NC_1, AC12 NC_1, AC13 NC_1, AC14 NC_1, AC15 NC_1, AC16 NC_1, AD10 NC_1, AD12 NC_1, AD13 NC_1, AD14 NC_1, AD16 NC_1, AE14 NC_1, AE15 NC_1, AE16 NC_1, AE17 NC_1, B13 NC_1, B14 NC_1, B16 NC_1, B17 NC_1, B19 NC_1, C13 NC_1, C14 NC_1, C15 NC_1, C16 NC_1, C17 NC_1, C18 NC_1, C19 NC_1, D14 NC_2, D15 NC_2, D16 NC_2, D17 NC_2, D18 NC_2, D19 NC_2, E13 NC_2, E14 NC_2, E15 NC_2, E16 NC_2, E17 NC_2, E18 NC_2, E19 NC_2, F14 NC_2, F16 NC_2, F17 NC_2, F19 NC_2, G14 NC_2, G15 NC_2, G16 NC_2, G17 NC_2, G18 NC_2, G19 NC_2, H14 NC_2, H15 NC_2, H16 NC_2, H17 NC_2, H18 NC_2, H19 NC_2, J15 NC_2, V10 NC_2, V11 NC_2, V12 NC_2, V14 NC_2, V15 NC_2, V16 NC_2, W10 NC_2, W11 NC_2, W12 NC_2, W14 NC_2, W15 NC_2, W16 NC_2, Y10 NC_2, Y12 NC_2, Y13 NC_2, Y14 NC_2, Y16 NC_2
part B text: BANK 0
part C text: BANK 45
part D text: BANK 46
part E text: BANK 47
part F text: BANK 65
part G text: BANK 66
part H text: BANK 67
part I text: BANK 68

## IC HS USB TO UART/FIFO 48QFN
designator U?, comment FT232HQ-REEL
USB Bridge, USB to UART,FIFO USB 2.0 UART, FIFO Interface 48-QFN (8x8) PN: FT232HQ-REEL; MF: FTDI, Future; MP: FT232HQ-REEL; SnapEDA_Link: https://www.snapeda.com/parts/FT232HQ-REEL/FTDI,%20Future%20Technology%20Devices%20International%20Ltd/view-part/52946/?ref=snap; Check_prices: https://www.snapeda.com/parts/FT232HQ-REEL/FTDI,%20Future%20Technology%20Devices%20International%20Ltd/view-part/52946/?ref=eda; Price: None; Availability: Good; Purchase-URL: https://pricing.snapeda.com/search/part/FT232HQ-REEL/?ref=eda; Package: QFN-48 FTDI; Value: *; PN: FT232HQ-REEL
footprint FT232HQ (done)
pins: 1 OSCI (in), 2 OSCO (out), 3 VPHY (power), 4 AGND (power), 5 REF (in), 6 DM (io), 7 DP (io), 8 VPLL (power), 9 AGND (power), 10 GND (power), 11 GND (power), 12 VCCIO (power), 13 ADBUS0 (out), 14 ADBUS1 (in), 15 ADBUS2 (out), 16 ADBUS3 (in), 17 ADBUS4 (out), 18 ADBUS5 (in), 19 ADBUS6 (in), 20 ADBUS7 (in), 21 ACBUS0 (io), 22 GND (power), 23 GND (power), 24 VCCIO (power), 25 ACBUS1 (io), 26 ACBUS2 (io), 27 ACBUS3 (io), 28 ACBUS4 (io), 29 ACBUS5 (io), 30 ACBUS6 (io), 31 ACBUS7 (io), 32 ACBUS8 (io), 33 ACBUS9 (io), 34 ~{RESET} (in), 35 GND (power), 36 GND (power), 37 VCCA (power), 38 VCORE (power), 39 VCCD (power), 40 VREGIN (power), 41 AGND (power), 42 TEST (in), 43 EEDATA (io), 44 EECLK (out), 45 EECS (io), 46 VCCIO (power), 47 GND (power), 48 GND (power), 49 EP (power)

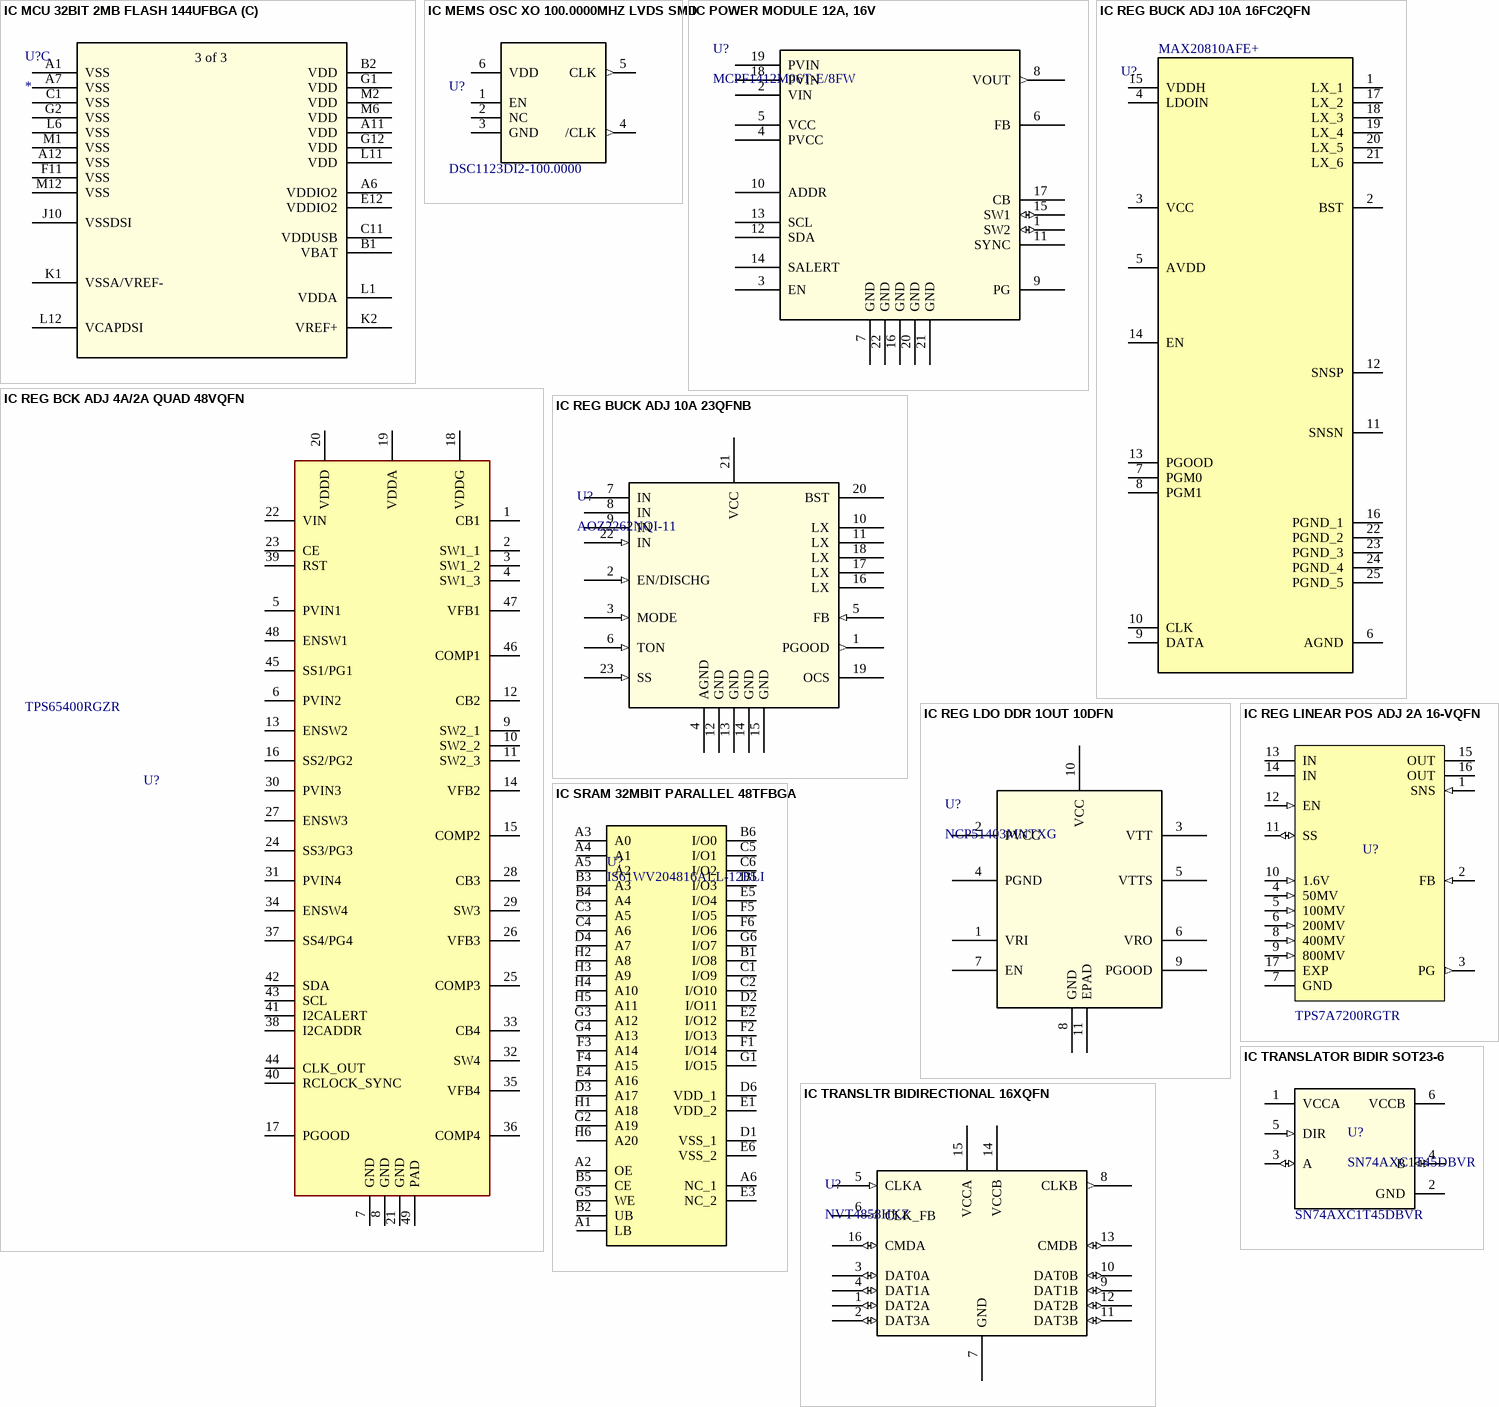
[diagram p5: symbols IC MCU 32BIT 2MB FLASH 144UFBGA to IC TRANSLTR BIDIRECTIONAL 16XQFN]

## IC MCU 32BIT 2MB FLASH 144UFBGA
designator U?
ARM® Cortex®-M4 STM32L4 Microcontroller IC 32-Bit Single-Core 120MHz 2MB (2M x 8) FLASH 144-UFBGA (10x10) PN: STM32L4R9ZIJ6; Mfr_Name: STMicroelectronics; RefDes: RefDes; Type: Type; PN: STM32L4R9ZIJ6
footprint UFBGA144-10x10mm
part A pins: A3 PB9 (io), A5 PB4 (io), A8 PD3 (io), A9 PC11 (io), A10 PA14 (io), B4 PB8 (io), B5 PB5 (io), B6 PB3 (io), B7 PD6 (io), B8 PD1 (io), B9 PA15 (io), B10 PA13 (io), B11 PA12 (io), B12 PA11 (io), C5 PB7 (io), C7 PD4 (io), C8 PD0 (io), C9 PC10 (io), C10 PA10 (io), C12 PC9 (io), D1 PC14-OSC32_IN (io), D2 PC15-OSC32_OUT (io), D5 PB6 (io), D7 PD5 (io), D8 PD2 (io), D9 PC12 (io), D10 PA9 (io), D11 PA8 (io), D12 PC6 (io), E4 PC13 (io), E7 PD7 (io), E9 PC7 (io), E10 PC8 (io), G7 PD15 (io), G8 PD14 (io), G9 PD12 (io), G10 PD13 (io), G11 PD11 (io), H3 PC0 (io), H4 PC2 (io), H5 PB2 (io), H8 PD10 (io), H9 PD9 (io), H10 PD8 (io), J2 PC1 (io), J3 PC3 (io), J4 PA6 (io), J5 PB1 (io), J9 PB15 (io), K3 PA0 (io), K4 PA4 (io), K5 PC5 (io), K9 PB11 (io), K10 PB14 (io), L2 PA1 (io), L3 PA2 (io), L4 PA5 (io), L5 PC4 (io), L9 PB10 (io), L10 PB12 (io), M3 PA3 (io), M4 PA7 (io), M5 PB0 (io), M11 PB13 (io)
part B pins: A2 PE0 (io), A4 PH3-BOOT0 (io), B3 PE3 (io), C2 PE5 (io), C3 PE2 (io), C4 PE1 (io), C6 PG13 (io), D3 PE4 (io), D4 PE6 (io), D6 PG12 (io), E1 PF2 (io), E2 PF1 (io), E3 PF0 (io), E5 PF3 (io), E6 PG10 (io), E8 PG8 (io), E11 PG7 (io), F1 PF8 (io), F2 PF6 (io), F3 PF4 (io), F4 PF5 (io), F5 PF7 (io), F6 PG9 (io), F7 PG3 (io), F8 PG5 (io), F9 PG6 (io), F10 PG4 (io), F12 PG2 (io), G3 PF10 (io), G4 PF9 (io), G5 PF12 (io), G6 PE7 (io), H1 PH0-OSC_IN (io), H2 PH1_OSC_OUT (io), H6 PF15 (io), H7 PE11 (io), H11 DSI_D1P (io), H12 DSI_D1N (io), J1 NRST (io), J6 PF13 (io), J7 PE9 (io), J8 PE13 (io), J11 DSI_CKP (io), J12 DSI_CKN (io), K6 PF11 (io), K7 PE8 (io), K8 PE15 (io), K11 DSI_D0P (io), K12 DSI_D0N (io), L7 PG0 (io), L8 PE10 (io), M7 PF14 (io), M8 PG1 (io), M9 PE12 (io), M10 PE14 (io)
part C pins: A1 VSS (power), A6 VDDIO2 (power), A7 VSS (power), A11 VDD (power), A12 VSS (power), B1 VBAT (power), B2 VDD (power), C1 VSS (power), C11 VDDUSB (power), E12 VDDIO2 (power), F11 VSS (power), G1 VDD (power), G2 VSS (power), G12 VDD (power), J10 VSSDSI (power), K1 VSSA/VREF- (power), K2 VREF+ (power), L1 VDDA (power), L6 VSS (power), L11 VDD (power), L12 VCAPDSI (power), M1 VSS (power), M2 VDD (power), M6 VDD (power), M12 VSS (power)
part A text: 1 of 3
part B text: 2 of 3
part C text: 3 of 3

## IC MEMS OSC XO 100.0000MHZ LVDS SMD
designator U?  PN: DSC1123DI2-100.0000  (hidden comment: *)
100 MHz XO (padrão) LVDS Oscilador 2,25V a 3,63V Habilitar/desabilitar 6-VDFN PN: DSC1123DI2-100.0000; Mfr_Name: Microchip; RefDes: RefDes; Type: Type
footprint VDFN6_2.5X2_MCH
pins: 1 EN, 2 NC, 3 GND (power), 4 /CLK (out), 5 CLK (out), 6 VDD (power)

## IC POWER MODULE 12A, 16V
designator U?, comment MCPF1412M06T-E/8FW
Non-Isolated PoL Module DC DC Converter 1 Output 0.6 ~ 1.8V 12A 4.5V - 16V Input; Manufacturer_Name: Microchip; Copyright: Copyright (C) 2025 Ultra Librarian. All rights reserved.; Manufacturer_Part_Number: MCPF1412M06T-E/8FW; RefDes: RefDes; Type: Type; PN: MCPF1412M06T-E/8FW
footprint LGA_MCPF1412M06T-E8FW_MCH
pins: 1 SW2 (io), 2 VIN, 3 EN, 4 PVCC, 5 VCC, 6 FB, 7 GND, 8 VOUT (out), 9 PG, 10 ADDR, 11 SYNC, 12 SDA, 13 SCL, 14 SALERT, 15 SW1 (io), 16 GND, 17 CB, 18 PVIN, 19 PVIN, 20 GND, 21 GND, 22 GND

## IC REG BCK ADJ 4A/2A QUAD 48VQFN
designator U?, comment TPS65400RGZR
Buck CI regulador de chaveamento Positivo Ajustável 0,6V 4 Saída 4A, 2A 48-VFQFN pad exposto; Manufacturer_Name: Texas Instruments; Geometry.Height: 1mm; Mouser Part Number: 595-TPS65400RGZR; Mouser Price/Stock: https://www.mouser.co.uk/ProductDetail/Texas-Instruments/TPS65400RGZR?qs=Lb6%252B0IsOw4%252Bg1%252BfY7t6%252Bmw%3D%3D; PN: TPS65400RGZR; Datasheet Link: http://www.ti.com/lit/gpn/tps65400
footprint QFN50P700X700X100-49N-D
pins: 1 CB1, 2 SW1_1, 3 SW1_2, 4 SW1_3, 5 PVIN1, 6 PVIN2, 7 GND, 8 GND, 9 SW2_1, 10 SW2_2, 11 SW2_3, 12 CB2, 13 ENSW2, 14 VFB2, 15 COMP2, 16 SS2/PG2, 17 PGOOD, 18 VDDG, 19 VDDA, 20 VDDD, 21 GND, 22 VIN, 23 CE, 24 SS3/PG3, 25 COMP3, 26 VFB3, 27 ENSW3, 28 CB3, 29 SW3, 30 PVIN3, 31 PVIN4, 32 SW4, 33 CB4, 34 ENSW4, 35 VFB4, 36 COMP4, 37 SS4/PG4, 38 I2CADDR, 39 RST, 40 RCLOCK_SYNC, 41 I2CALERT, 42 SDA, 43 SCL, 44 CLK_OUT, 45 SS1/PG1, 46 COMP1, 47 VFB1, 48 ENSW1, 49 PAD

## IC REG BUCK ADJ 10A 16FC2QFN
designator U?, comment MAX20810AFE+
IC REG BUCK ADJ 10A 16FC2QFN PN:MAX20810AFE+; Manufacturer_Name: Analog Devices; Datasheet Link: https://www.digikey.com/en/products/detail/analog-devices-inc-maxim-integrated/MAX20810AFE/22463000?msockid=2ab7f999c9c96f4c2a13ec8dc8dd6eef; Height: 0.75mm; Mouser Part Number: 700-MAX20810AFE+; Mouser Price/Stock: https://www.mouser.co.uk/ProductDetail/Analog-Devices-Maxim-Integrated/MAX20810AFE%2b?qs=ST9lo4GX8V1Nvp4d0%2FgnXQ%3D%3D; PN: MAX20810AFE+
footprint MAX20810AFE
pins: 1 LX_1, 2 BST, 3 VCC, 4 LDOIN, 5 AVDD, 6 AGND, 7 PGM0, 8 PGM1, 9 DATA, 10 CLK, 11 SNSN, 12 SNSP, 13 PGOOD, 14 EN, 15 VDDH, 16 PGND_1, 17 LX_2, 18 LX_3, 19 LX_4, 20 LX_5, 21 LX_6, 22 PGND_2, 23 PGND_3, 24 PGND_4, 25 PGND_5

## IC REG BUCK ADJ 10A 23QFNB
designator U?, comment AOZ2262NQI-11
Buck Switching Regulator IC Positive Adjustable 0.6V 1 Output 10A 23-PowerTFQFN; Mfr_Name: Alpha and Omega Semiconductor; RefDes: RefDes; Type: Type; PN: AOZ2262NQI-11
footprint QFN4X4B_23L_EP2_S_AOS
pins: 1 PGOOD (out), 2 EN/DISCHG (in), 3 MODE (in), 4 AGND (power), 5 FB (in), 6 TON (in), 7 IN (power), 8 IN (power), 9 IN (power), 10 LX, 11 LX, 12 GND (power), 13 GND (power), 14 GND (power), 15 GND (power), 16 LX, 17 LX, 18 LX, 19 OCS, 20 BST (power), 21 VCC (power), 22 IN (in), 23 SS (in)

## IC REG LDO DDR 1OUT 10DFN
designator U?, comment NCP51403MNTXG
- LDO (Linear), DDR Voltage Regulator IC 1 Output 10-DFN (3x3); Mfr_Name: onsemi; RefDes: RefDes; Type: Type; PN: NCP51403MNTXG
footprint DFN10_3X3_ONS
pins: 1 VRI, 2 PVCC, 3 VTT, 4 PGND (power), 5 VTTS, 6 VRO, 7 EN, 8 GND (power), 9 PGOOD (power), 10 VCC (power), 11 EPAD

## IC REG LINEAR POS ADJ 2A 16-VQFN
designator U?  PN: TPS7A7200RGTR  (hidden comment: *)
2-A, low-VIN (1.43-V), ultra-low-dropout voltage regulator with power good & enable 16-VQFN -40 to 125; MF: Texas Instruments; SnapEDA_Link: https://www.snapeda.com/parts/TPS7A7200RGTR/Texas%20Instruments/view-part/1236414/?ref=snap; Availability: Unavailable; Package: VQFN-16 Texas Instruments; Price: None; Value: *; Purchase-URL: https://pricing.snapeda.com/search/part/TPS7A7200RGTR/?ref=eda
footprint QFN50P300X300X100-17N
pins: 1 SNS (in), 2 FB (in), 3 PG (out), 4 50MV (in), 5 100MV (in), 6 200MV (in), 7 GND (power), 8 400MV (in), 9 800MV (in), 10 1.6V (in), 11 SS (io), 12 EN (in), 13 IN (power), 14 IN (power), 15 OUT (power), 16 OUT (power), 17 EXP (power)

## IC SRAM 32MBIT PARALLEL 48TFBGA
designator U?, comment IS61WV204816ALL-12BLI
SRAM - Asynchronous Memory IC 32Mbit Parallel 10 ns 48-TFBGA (6x8); Manufacturer_Name: Integrated Silicon Solution Inc.; Manufacturer_Part_Number: IS61WV204816BLL-10BLI; Geometry.Height: 1.2mm; Mouser Part Number: 870-WV204816BLL10BLI; Mouser Price/Stock: https://www.mouser.co.uk/ProductDetail/ISSI/IS61WV204816BLL-10BLI?qs=cttFivMKqWygmzV9oE9bxA%3D%3D; Datasheet Link: http://www.issi.com/WW/pdf/61-64WV204816BLL.pdf; PN: IS61WV204816ALL-12BLI
footprint BGA48C75P6X8_600X800X120
pins: A1 LB, A2 OE, A3 A0, A4 A1, A5 A2, A6 NC_1, B1 I/O8, B2 UB, B3 A3, B4 A4, B5 CE, B6 I/O0, C1 I/O9, C2 I/O10, C3 A5, C4 A6, C5 I/O1, C6 I/O2, D1 VSS_1, D2 I/O11, D3 A17, D4 A7, D5 I/O3, D6 VDD_1, E1 VDD_2, E2 I/O12, E3 NC_2, E4 A16, E5 I/O4, E6 VSS_2, F1 I/O14, F2 I/O13, F3 A14, F4 A15, F5 I/O5, F6 I/O6, G1 I/O15, G2 A19, G3 A12, G4 A13, G5 WE, G6 I/O7, H1 A18, H2 A8, H3 A9, H4 A10, H5 A11, H6 A20

## IC TRANSLATOR BIDIR SOT23-6
designator U?, comment SN74AXC1T45DBVR
Nível de tensão Tradutor Bidirecional 1 Circuito 1 Canal 500Mbps SOT-23-6. PN: SN74AXC1T45DBVR; MF: Texas Instruments; SnapEDA_Link: https://www.snapeda.com/parts/SN74AXC1T45DBVR/Texas+Instruments/view-part/?ref=snap; Availability: In Stock; MP: SN74AXC1T45DBVR; Price: None; Purchase-URL: https://pricing.snapeda.com/search/part/SN74AXC1T45DBVR/?ref=eda; Check_prices: https://www.snapeda.com/parts/SN74AXC1T45DBVR/Texas+Instruments/view-part/?ref=eda; Package: SOT-23-6 Texas Instruments; Parameter 1: *; Value: *; PN: SN74AXC1T45DBVR
footprint SN74AXC1T45DBVR
pins: 1 VCCA (power), 2 GND (power), 3 A (io), 4 B (io), 5 DIR (in), 6 VCCB (power)

## IC TRANSLTR BIDIRECTIONAL 16XQFN
designator U?, comment NVT4858HKZ
Voltage Level Translator Bidirectional 1 Circuit 6 Channel 104Mbps 16-XQFN (1.8x2.6) / PN: NVT4858HKZ; Mfr_Name: NXP; RefDes: RefDes; Type: Type; PN: NVT4858HKZ
footprint NVT4858_NXP
pins: 1 DAT2A (io), 2 DAT3A (io), 3 DAT0A (io), 4 DAT1A (io), 5 CLKA (in), 6 CLK_FB (out), 7 GND (power), 8 CLKB (out), 9 DAT1B (io), 10 DAT0B (io), 11 DAT3B (io), 12 DAT2B (io), 13 CMDB (io), 14 VCCB (power), 15 VCCA (power), 16 CMDA (io)

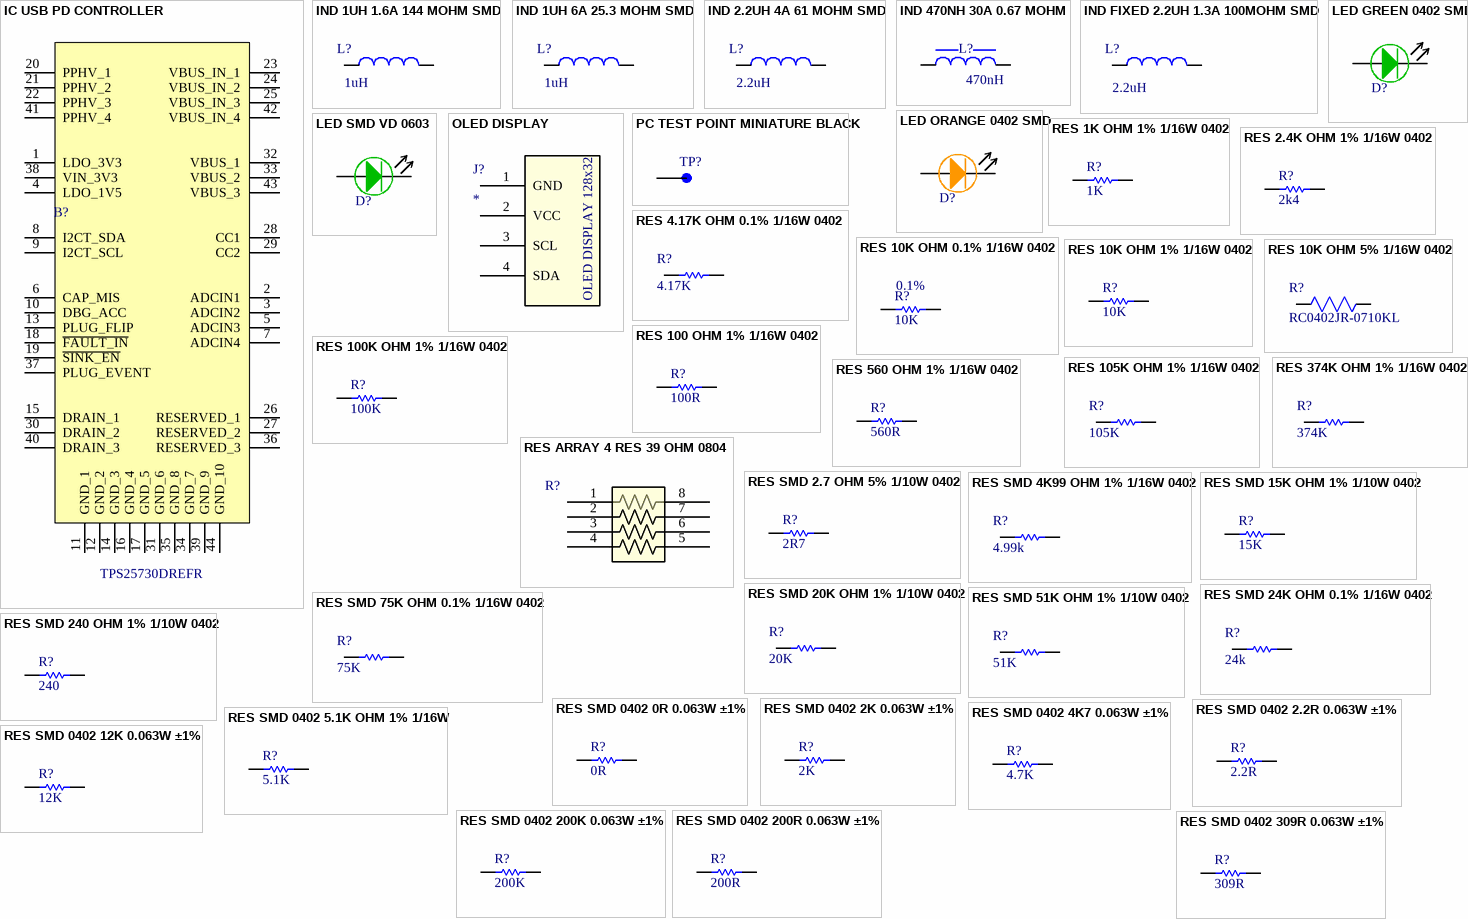
[diagram p6: symbols IC USB PD CONTROLLER to RES SMD 0402 309R 0.063W ±1%]

## IC USB PD CONTROLLER
designator B?, comment TPS25730DREFR
USB Interface IC SARUMAN BG MCM PN: TPS25730DREFR; Manufacturer_Name: Texas Instruments; Geometry.Height: 0.8mm; Mouser Part Number: 595-TPS25730DREFR; Mouser Price/Stock: https://www.mouser.co.uk/ProductDetail/Texas-Instruments/TPS25730DREFR?qs=Z%252BL2brAPG1IvmkUK7DRnBA%3D%3D; PN: TPS25730DREFR; Datasheet Link: https://www.ti.com/lit/ds/symlink/tps25730.pdf?ts=1707773923998&ref_url=https%253A%252F%252Fwww.mouser.at%252F
footprint TPS25730DREFR
pins: 1 LDO_3V3, 2 ADCIN1, 3 ADCIN2, 4 LDO_1V5, 5 ADCIN3, 6 CAP_MIS, 7 ADCIN4, 8 I2CT_SDA, 9 I2CT_SCL, 10 DBG_ACC, 11 GND_1, 12 GND_2, 13 PLUG_FLIP, 14 GND_3, 15 DRAIN_1, 16 GND_4, 17 GND_5, 18 ~{FAULT_IN}, 19 ~{SINK_EN}, 20 PPHV_1, 21 PPHV_2, 22 PPHV_3, 23 VBUS_IN_1, 24 VBUS_IN_2, 25 VBUS_IN_3, 26 RESERVED_1, 27 RESERVED_2, 28 CC1, 29 CC2, 30 DRAIN_2, 31 GND_6, 32 VBUS_1, 33 VBUS_2, 34 GND_7, 35 GND_8, 36 RESERVED_3, 37 PLUG_EVENT, 38 VIN_3V3, 39 GND_9, 40 DRAIN_3, 41 PPHV_4, 42 VBUS_IN_4, 43 VBUS_3, 44 GND_10

## IND 1UH 1.6A 144 MOHM SMD
designator L?, comment value 1uH  (hidden comment: DFE18SAN1R0ME0L)
IND 1UH 1.6A 144 MOHM SMDPN: DFE18SAN1R0ME0L; MF: Murata Electronics; PN: DFE18SAN1R0ME0L; Package: 1608 ICS; DigiKey-Purchase-URL: https://snapeda.com/shop?store=DigiKey&id=4221634; Mouser-Purchase-URL: https://snapeda.com/shop?store=Mouser&id=4221634; SnapEDA_Link: https://www.snapeda.com/parts/DFE18SAN1R0ME0L/Applied%20Avionics/view-part/4221634/?ref=snap; Part Number: DFE18SAN1R0ME0L
footprint INDC1608X80N
pins: 1, 2

## IND 1UH 6A 25.3 MOHM SMD
designator L?, comment value 1uH  (hidden comment: DFE18SAN1R0ME0L)
FIXED IND 1UH 6A 25.3 MOHM SMD PN: SRP5015TA-1R0M; MF: Murata Electronics; PN: SRP5015TA-1R0M; Package: 1608 ICS; DigiKey-Purchase-URL: https://snapeda.com/shop?store=DigiKey&id=4221634; Mouser-Purchase-URL: https://snapeda.com/shop?store=Mouser&id=4221634; SnapEDA_Link: https://www.snapeda.com/parts/DFE18SAN1R0ME0L/Applied%20Avionics/view-part/4221634/?ref=snap; Part Number: DFE18SAN1R0ME0L
footprint IND570MM520MM
pins: 1, 2

## IND 2.2UH 4A 61 MOHM SMD
designator L?  value 2.2uH
FIXED IND 2.2UH 4A 61 MOHM SMD PN: SRP4020TA-2R2M; MF: Murata Electronics; PN: SRP4020TA-2R2M; Package: 1608 ICS; DigiKey-Purchase-URL: https://snapeda.com/shop?store=DigiKey&id=4221634; Mouser-Purchase-URL: https://snapeda.com/shop?store=Mouser&id=4221634; SnapEDA_Link: https://www.snapeda.com/parts/DFE18SAN1R0ME0L/Applied%20Avionics/view-part/4221634/?ref=snap; Part Number: SRP4020TA-2R2M
footprint IND_SRP4020TA-2R2M
pins: 1, 2

## IND 470NH 30A 0.67 MOHM
designator L?, comment value 470nH  (hidden comment: 744355147)
FIXED IND 470NH 30A 0.67 MOHM PN: 744355147; MF: {'manufacturer': u'W\xfcrth Elektronik'}; Package: None; Price: None; PN: 744355147; Availability: Unavailable
footprint WE-HCI_1365
pins: 1, 2

## IND FIXED 2.2UH 1.3A 100MOHM SMD
designator L?, comment value 2.2uH  (hidden comment: LQM2HPN2R2MG0L)
2.2 µH Blindado Multicamada Indutor 1.3 A Máx. 100mOhm 1008 (métrico 2520); Tolerance: 20%; Current: 1.05A; Package: 1008; PN: LQM2HPN2R2MG0L
footprint INDC2520X120N
footprint 0402-L
footprint IND_LQM2HPN2R2MG0L_MUR
pins: 1, 2

## LED GREEN 0402 SMD
designator D?, comment LNJ347W83RA  (value not drawn)
Green 572nm LED Indication - Discrete 1.95V 0402 (1005 Metric); ID: ?; PN: LNJ347W83RA
footprint LED_0402
pins: 1 K, 2 A

## LED ORANGE 0402 SMD
designator D?, comment LNJ847W86RA  (value not drawn)
Orange 605nm LED Indication - Discrete 1.95V 0402 (1005 Metric); ID: ?; PN: LNJ847W86RA
footprint LED_0402
pins: 1 K, 2 A

## LED SMD VD 0603
designator D?, comment 150060GS75000  (value not drawn)
LED SMD VD ALTO BRILHO 1,6x0,8x0,8mm 430mcd PN:150060GS75000 0603 WURTH; ID: ?; PN: 150060GS75000
footprint LED0603
pins: 1 K, 2 A

## OLED DISPLAY
designator J?
footprint OLED_DISPLAY
pins: 1 GND, 2 VCC, 3 SCL, 4 SDA
text: OLED DISPLAY 128x32

## PC TEST POINT MINIATURE BLACK
designator TP?, comment 5001  (value not drawn)
PC TEST POINT MINIATURE BLACK PN: 5001; MF: Keystone Electronics Corp.; SnapEDA_Link: https://www.snapeda.com/parts/5001/Keystone+Electronics/view-part/?ref=snap; Package: None; Value: *; PN: 5001; Check_prices: https://www.snapeda.com/parts/5001/Keystone+Electronics/view-part/?ref=eda
footprint KEYSTONE_5001
footprint TEST_POINT
pins: 1

## RES 1K OHM 1% 1/16W 0402
designator R?, comment value 1K  (hidden comment: RC0402FR-071KL)
1 kOhms ±1% 0.063W, 1/16W Chip Resistor 0402 (1005 Metric) Moisture Resistant Thick Film; PACK: 0402; POWER: 0.063W; TOLERANCE: 1%; PN: RC0402FR-071KL
footprint 0402-R-R
pins: 1, 2

## RES 2.4K OHM 1% 1/16W 0402
designator R?, comment value 2k4  (hidden comment: RMCF0402ZT0R00)
2.4 kOhms ±1% 0.063W, 1/16W Chip Resistor 0402 (1005 Metric) Moisture Resistant Thick Film; PACK: 0402; PN: RC0402FR-072K4L; TOLERANCE: 1%; POWER: 0.063W
footprint 0402-R-R
pins: 1, 2

## RES 4.17K OHM 0.1% 1/16W 0402
designator R?, comment Resistence: 4.17K  (hidden comment: RN73R1ETTP4171B25)
4.17 kOhms ±0,1% 0,063W, 1/16W Resistor de chip 0402 (métrico 1005) AEC-Q200 automotivo, resistente a umidade Filme fino; Mfr_Name: KOA Speer Electronics, Inc.; Tolerance: 0.1%; PN: RN73R1ETTP4171B25
footprint 0402-R-R
pins: 1, 2